# Altium integrated library Renesas Microprocessor SuperH.IntLib: 433 symbols (part 49 of 62)
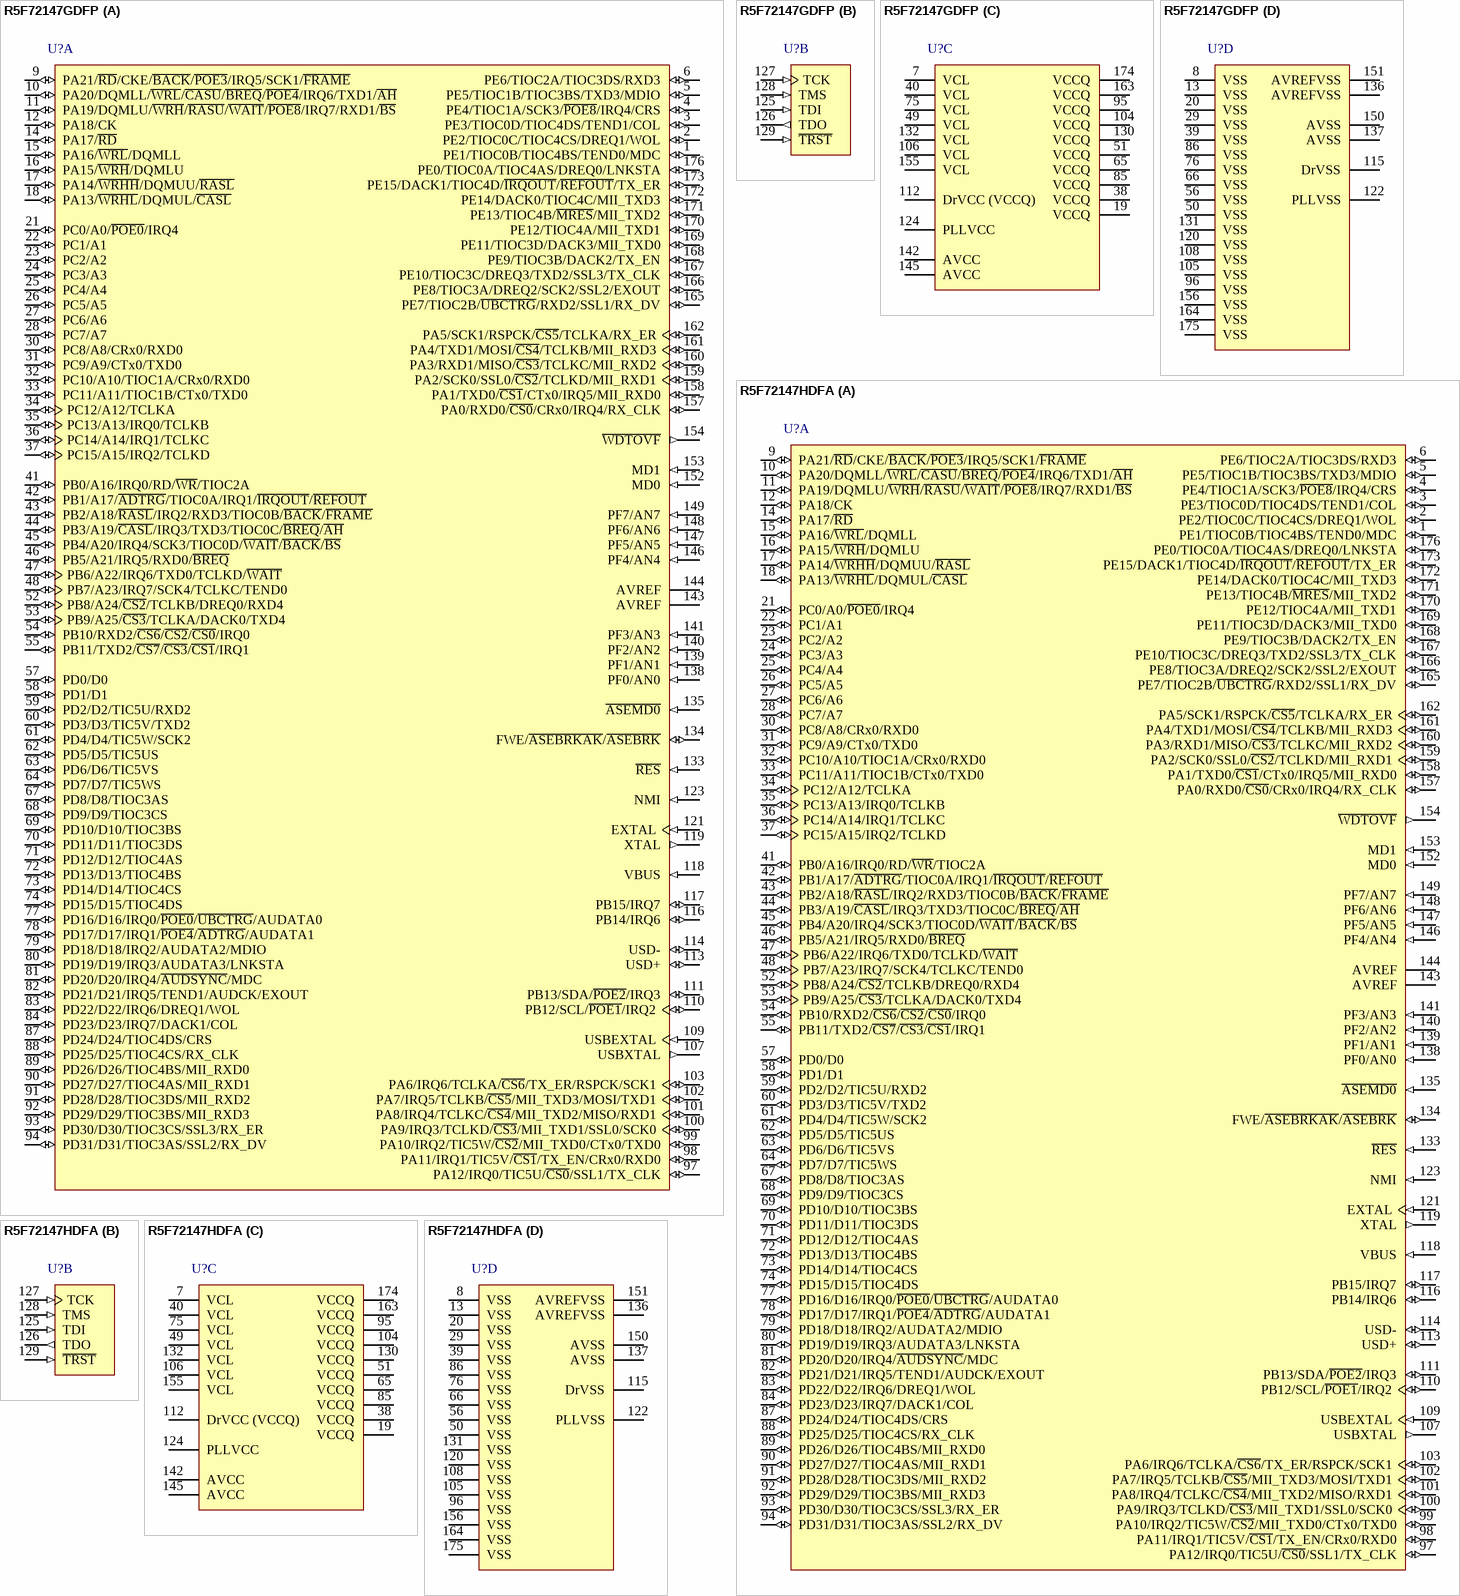
[diagram p310: symbols R5F72147GDFP to R5F72147HDFA]

## R5F72147HDFA
designator U?
32-bit RISC Microcomputer, SH7216 Series, SH2A core, 200MHz, 1M ROM, 128K RAM, 176-Pin QFP; Published: 16-Feb-2010; DatasheetVersion: Rev.1.01, May-2009; PackageVersion: Sep-2005; PackageReference: PLQP0176LB-A; Publisher: Altium Limited; PackageDescription: 176-Pin Plastic Low Profile QFP, 20 x 20 x 1.4 mm Body, 0.4 mm Pitch; Code_JEITA: P-LQFP176-20x20-0.40; ComponentLink1Description: Manufacturer Link; ComponentLink1URL: http://www.renesas.com/fmwk.jsp?cnt=sh7216_root.jsp&fp=/products/mpumcu/superh_family/sh7216_series/sh7216_group/; ComponentLink2Description: Datasheet; ComponentLink2URL: http://documentation.renesas.com/eng/products/mpumcu/rej09b0543_sh7216hm.pdf; ComponentLink3Description: Packaging Specification; ComponentLink3URL: http://sg.renesas.com/media/products/common_info/package/pdf/ic/code/plqp0176lb_a.pdf
footprint PLQP0176LB-A_N (Shrink QFP, 176-Leads, Body 20x20mm, Pitch 0.4mm, IPC Medium Density)
footprint PLQP0176LB-A_L (Shrink QFP, 176-Leads, Body 20x20mm, Pitch 0.4mm, IPC High Density)
footprint PLQP0176LB-A_M (Shrink QFP, 176-Leads, Body 20x20mm, Pitch 0.4mm, IPC Low Density)
part A pins: 1 PE1/TIOC0B/TIOC4BS/TEND0/MDC (io), 2 PE2/TIOC0C/TIOC4CS/DREQ1/WOL (io), 3 PE3/TIOC0D/TIOC4DS/TEND1/COL (io), 4 PE4/TIOC1A/SCK3/~{POE8}/IRQ4/CRS (io), 5 PE5/TIOC1B/TIOC3BS/TXD3/MDIO (io), 6 PE6/TIOC2A/TIOC3DS/RXD3 (io), 9 PA21/~{RD}/CKE/~{BACK}/~{POE3}/IRQ5/SCK1/~{FRAME} (io), 10 PA20/DQMLL/~{WRL}/~{CASU}/~{BREQ}/~{POE4}/IRQ6/TXD1/~{AH} (io), 11 PA19/DQMLU/~{WRH}/~{RASU}/~{WAIT}/~{POE8}/IRQ7/RXD1/~{BS} (io), 12 PA18/CK (io), 14 PA17/~{RD} (io), 15 PA16/~{WRL}/DQMLL (io), 16 PA15/~{WRH}/DQMLU (io), 17 PA14/~{WRHH}/DQMUU/~{RASL} (io), 18 PA13/~{WRHL}/DQMUL/~{CASL} (io), 21 PC0/A0/~{POE0}/IRQ4 (io), 22 PC1/A1 (io), 23 PC2/A2 (io), 24 PC3/A3 (io), 25 PC4/A4 (io), 26 PC5/A5 (io), 27 PC6/A6 (io), 28 PC7/A7 (io), 30 PC8/A8/CRx0/RXD0 (io), 31 PC9/A9/CTx0/TXD0 (io), 32 PC10/A10/TIOC1A/CRx0/RXD0 (io), 33 PC11/A11/TIOC1B/CTx0/TXD0 (io), 34 PC12/A12/TCLKA (io), 35 PC13/A13/IRQ0/TCLKB (io), 36 PC14/A14/IRQ1/TCLKC (io), 37 PC15/A15/IRQ2/TCLKD (io), 41 PB0/A16/IRQ0/RD/~{WR}/TIOC2A (io), 42 PB1/A17/~{ADTRG}/TIOC0A/IRQ1/~{IRQOUT}/~{REFOUT} (io), 43 PB2/A18/~{RASL}/IRQ2/RXD3/TIOC0B/~{BACK}/~{FRAME} (io), 44 PB3/A19/~{CASL}/IRQ3/TXD3/TIOC0C/~{BREQ}/~{AH} (io), 45 PB4/A20/IRQ4/SCK3/TIOC0D/~{WAIT}/~{BACK}/~{BS} (io), 46 PB5/A21/IRQ5/RXD0/~{BREQ} (io), 47 PB6/A22/IRQ6/TXD0/TCLKD/~{WAIT} (io), 48 PB7/A23/IRQ7/SCK4/TCLKC/TEND0 (io), 52 PB8/A24/~{CS2}/TCLKB/DREQ0/RXD4 (io), 53 PB9/A25/~{CS3}/TCLKA/DACK0/TXD4 (io), 54 PB10/RXD2/~{CS6}/~{CS2}/~{CS0}/IRQ0 (io), 55 PB11/TXD2/~{CS7}/~{CS3}/~{CS1}/IRQ1 (io), 57 PD0/D0 (io), 58 PD1/D1 (io), 59 PD2/D2/TIC5U/RXD2 (io), 60 PD3/D3/TIC5V/TXD2 (io), 61 PD4/D4/TIC5W/SCK2 (io), 62 PD5/D5/TIC5US (io), 63 PD6/D6/TIC5VS (io), 64 PD7/D7/TIC5WS (io), 67 PD8/D8/TIOC3AS (io), 68 PD9/D9/TIOC3CS (io), 69 PD10/D10/TIOC3BS (io), 70 PD11/D11/TIOC3DS (io), 71 PD12/D12/TIOC4AS (io), 72 PD13/D13/TIOC4BS (io), 73 PD14/D14/TIOC4CS (io), 74 PD15/D15/TIOC4DS (io), 77 PD16/D16/IRQ0/~{POE0}/~{UBCTRG}/AUDATA0 (io), 78 PD17/D17/IRQ1/~{POE4}/~{ADTRG}/AUDATA1 (io), 79 PD18/D18/IRQ2/AUDATA2/MDIO (io), 80 PD19/D19/IRQ3/AUDATA3/LNKSTA (io), 81 PD20/D20/IRQ4/~{AUDSYNC}/MDC (io), 82 PD21/D21/IRQ5/TEND1/AUDCK/EXOUT (io), 83 PD22/D22/IRQ6/DREQ1/WOL (io), 84 PD23/D23/IRQ7/DACK1/COL (io), 87 PD24/D24/TIOC4DS/CRS (io), 88 PD25/D25/TIOC4CS/RX_CLK (io), 89 PD26/D26/TIOC4BS/MII_RXD0 (io), 90 PD27/D27/TIOC4AS/MII_RXD1 (io), 91 PD28/D28/TIOC3DS/MII_RXD2 (io), 92 PD29/D29/TIOC3BS/MII_RXD3 (io), 93 PD30/D30/TIOC3CS/SSL3/RX_ER (io), 94 PD31/D31/TIOC3AS/SSL2/RX_DV (io), 97 PA12/IRQ0/TIC5U/~{CS0}/SSL1/TX_CLK (io), 98 PA11/IRQ1/TIC5V/~{CS1}/TX_EN/CRx0/RXD0 (io), 99 PA10/IRQ2/TIC5W/~{CS2}/MII_TXD0/CTx0/TXD0 (io), 100 PA9/IRQ3/TCLKD/~{CS3}/MII_TXD1/SSL0/SCK0 (io), 101 PA8/IRQ4/TCLKC/~{CS4}/MII_TXD2/MISO/RXD1 (io), 102 PA7/IRQ5/TCLKB/~{CS5}/MII_TXD3/MOSI/TXD1 (io), 103 PA6/IRQ6/TCLKA/~{CS6}/TX_ER/RSPCK/SCK1 (io), 107 USBXTAL (out), 109 USBEXTAL (in), 110 PB12/SCL/~{POE1}/IRQ2 (io), 111 PB13/SDA/~{POE2}/IRQ3 (io), 113 USD+ (io), 114 USD- (io), 116 PB14/IRQ6 (io), 117 PB15/IRQ7 (io), 118 VBUS (in), 119 XTAL (out), 121 EXTAL (in), 123 NMI (in), 133 ~{RES} (in), 134 FWE/~{ASEBRKAK}/~{ASEBRK} (io), 135 ~{ASEMD0} (in), 138 PF0/AN0 (in), 139 PF1/AN1 (in), 140 PF2/AN2 (in), 141 PF3/AN3 (in), 143 AVREF (power), 144 AVREF (power), 146 PF4/AN4 (in), 147 PF5/AN5 (in), 148 PF6/AN6 (in), 149 PF7/AN7 (in), 152 MD0 (in), 153 MD1 (in), 154 ~{WDTOVF} (out), 157 PA0/RXD0/~{CS0}/CRx0/IRQ4/RX_CLK (io), 158 PA1/TXD0/~{CS1}/CTx0/IRQ5/MII_RXD0 (io), 159 PA2/SCK0/SSL0/~{CS2}/TCLKD/MII_RXD1 (io), 160 PA3/RXD1/MISO/~{CS3}/TCLKC/MII_RXD2 (io), 161 PA4/TXD1/MOSI/~{CS4}/TCLKB/MII_RXD3 (io), 162 PA5/SCK1/RSPCK/~{CS5}/TCLKA/RX_ER (io), 165 PE7/TIOC2B/~{UBCTRG}/RXD2/SSL1/RX_DV (io), 166 PE8/TIOC3A/DREQ2/SCK2/SSL2/EXOUT (io), 167 PE10/TIOC3C/DREQ3/TXD2/SSL3/TX_CLK (io), 168 PE9/TIOC3B/DACK2/TX_EN (io), 169 PE11/TIOC3D/DACK3/MII_TXD0 (io), 170 PE12/TIOC4A/MII_TXD1 (io), 171 PE13/TIOC4B/~{MRES}/MII_TXD2 (io), 172 PE14/DACK0/TIOC4C/MII_TXD3 (io), 173 PE15/DACK1/TIOC4D/~{IRQOUT}/~{REFOUT}/TX_ER (io), 176 PE0/TIOC0A/TIOC4AS/DREQ0/LNKSTA (io)
part B pins: 125 TDI (in), 126 TDO (out), 127 TCK (in), 128 TMS (in), 129 ~{TRST} (in)
part C pins: 7 VCL (power), 19 VCCQ (power), 38 VCCQ (power), 40 VCL (power), 49 VCL (power), 51 VCCQ (power), 65 VCCQ (power), 75 VCL (power), 85 VCCQ (power), 95 VCCQ (power), 104 VCCQ (power), 106 VCL (power), 112 DrVCC (VCCQ) (power), 124 PLLVCC (power), 130 VCCQ (power), 132 VCL (power), 142 AVCC (power), 145 AVCC (power), 155 VCL (power), 163 VCCQ (power), 174 VCCQ (power)
part D pins: 8 VSS (power), 13 VSS (power), 20 VSS (power), 29 VSS (power), 39 VSS (power), 50 VSS (power), 56 VSS (power), 66 VSS (power), 76 VSS (power), 86 VSS (power), 96 VSS (power), 105 VSS (power), 108 VSS (power), 115 DrVSS (power), 120 VSS (power), 122 PLLVSS (power), 131 VSS (power), 136 AVREFVSS (power), 137 AVSS (power), 150 AVSS (power), 151 AVREFVSS (power), 156 VSS (power), 164 VSS (power), 175 VSS (power)

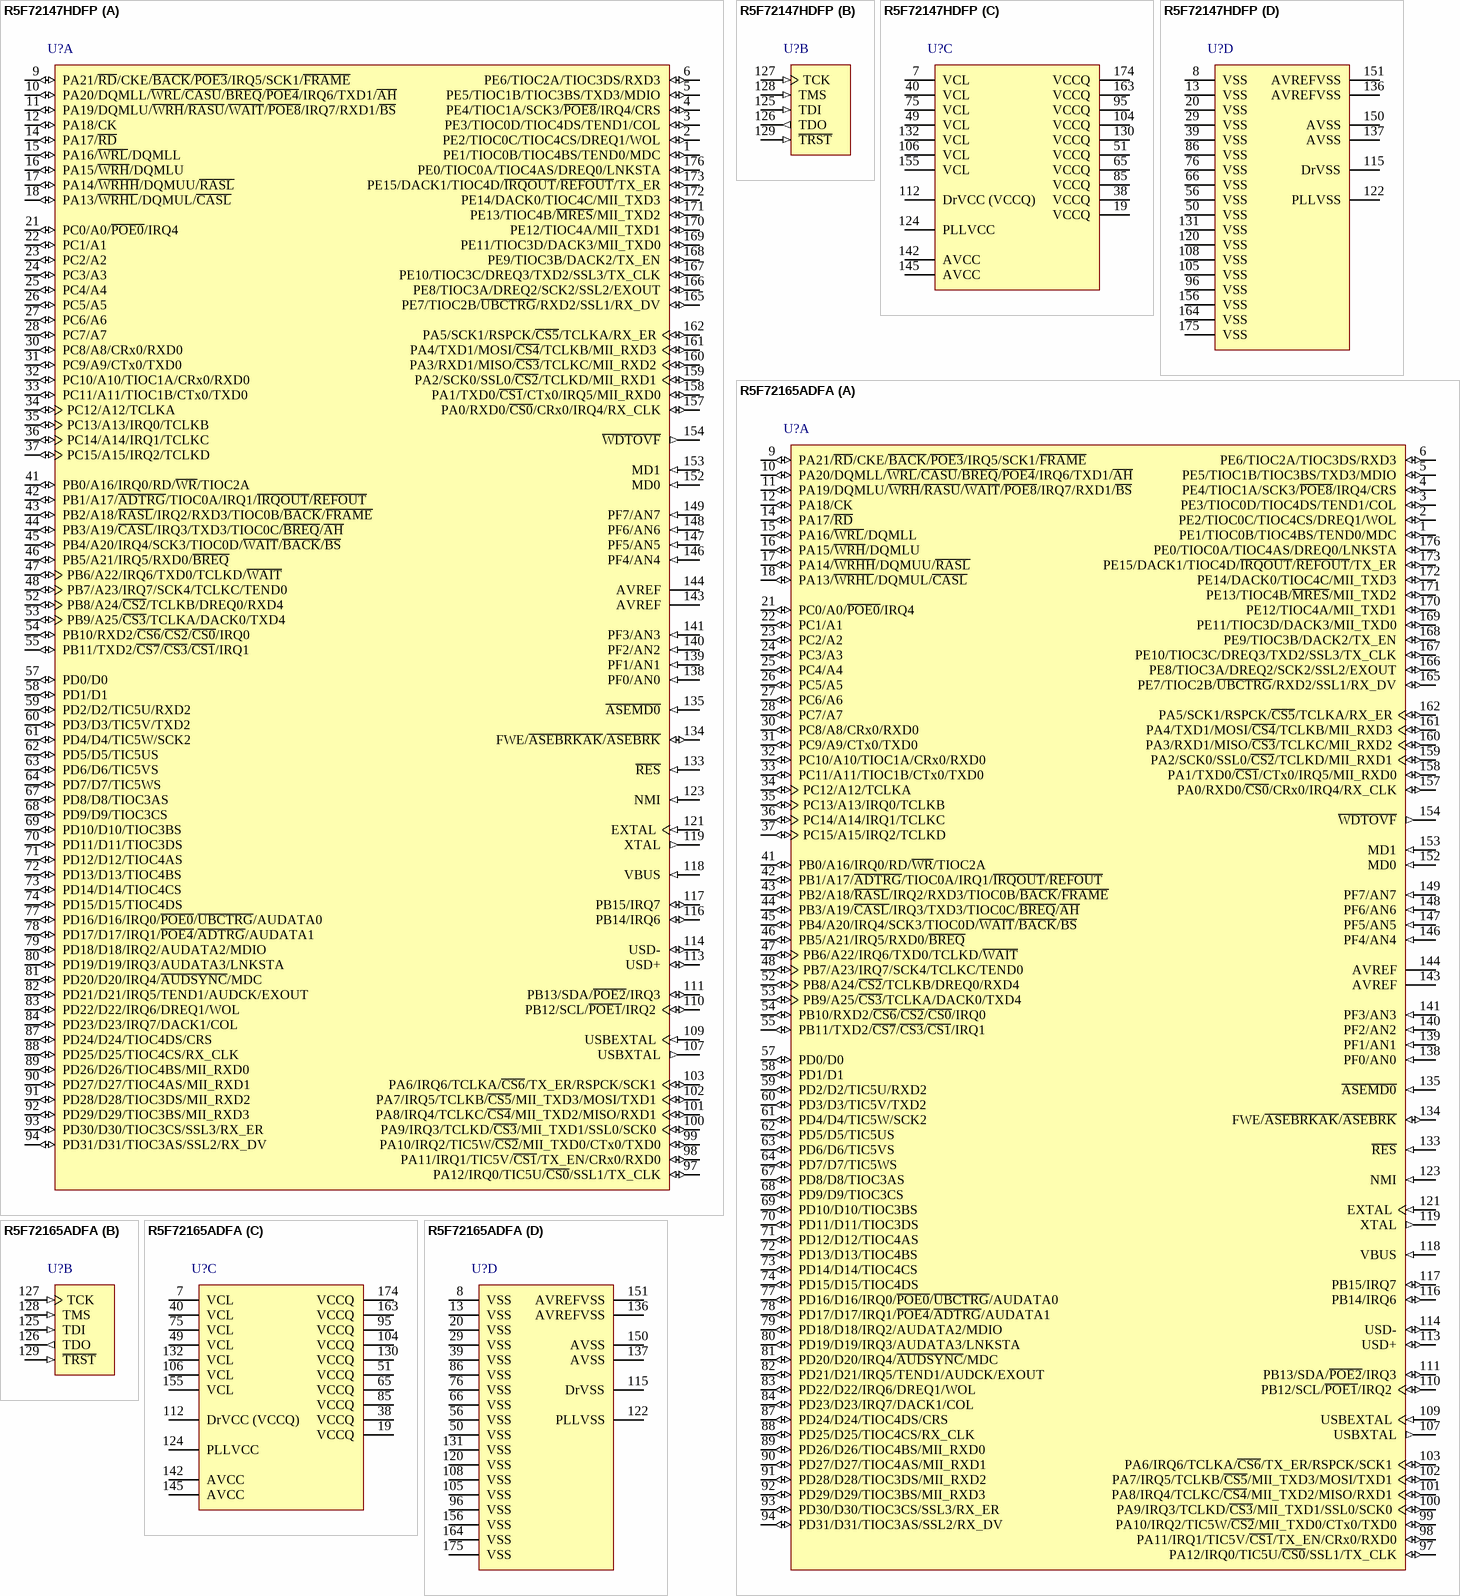
[diagram p170: symbols R5F72147HDFP to R5F72165ADFA]

## R5F72147HDFP
designator U?
32-bit RISC Microcomputer, SH7216 Series, SH2A core, 200MHz, 1M ROM, 128K RAM, 176-Pin QFP; Published: 15-Feb-2010; DatasheetVersion: Rev.1.01, May-2009; PackageVersion: Oct-2005; PackageReference: PLQP0176KB-A; Publisher: Altium Limited; PackageDescription: 176-Pin Plastic Low Profile QFP, 24 x 24 x 1.4 mm Body, 0.5 mm Pitch; Code_JEITA: P-LQFP176-24x24-0.50; ComponentLink1Description: Manufacturer Link; ComponentLink1URL: http://www.renesas.com/fmwk.jsp?cnt=sh7216_root.jsp&fp=/products/mpumcu/superh_family/sh7216_series/sh7216_group/; ComponentLink2Description: Datasheet; ComponentLink2URL: http://documentation.renesas.com/eng/products/mpumcu/rej09b0543_sh7216hm.pdf; ComponentLink3Description: Packaging Specification; ComponentLink3URL: http://sg.renesas.com/media/products/common_info/package/pdf/ic/code/plqp0176kb_a.pdf
footprint PLQP0176KB-A_N (Shrink QFP, 176-Leads, Body 24x24mm, Pitch 0.5mm, IPC Medium Density)
footprint PLQP0176KB-A_L (Shrink QFP, 176-Leads, Body 24x24mm, Pitch 0.5mm, IPC High Density)
footprint PLQP0176KB-A_M (Shrink QFP, 176-Leads, Body 24x24mm, Pitch 0.5mm, IPC Low Density)
part A pins: 1 PE1/TIOC0B/TIOC4BS/TEND0/MDC (io), 2 PE2/TIOC0C/TIOC4CS/DREQ1/WOL (io), 3 PE3/TIOC0D/TIOC4DS/TEND1/COL (io), 4 PE4/TIOC1A/SCK3/~{POE8}/IRQ4/CRS (io), 5 PE5/TIOC1B/TIOC3BS/TXD3/MDIO (io), 6 PE6/TIOC2A/TIOC3DS/RXD3 (io), 9 PA21/~{RD}/CKE/~{BACK}/~{POE3}/IRQ5/SCK1/~{FRAME} (io), 10 PA20/DQMLL/~{WRL}/~{CASU}/~{BREQ}/~{POE4}/IRQ6/TXD1/~{AH} (io), 11 PA19/DQMLU/~{WRH}/~{RASU}/~{WAIT}/~{POE8}/IRQ7/RXD1/~{BS} (io), 12 PA18/CK (io), 14 PA17/~{RD} (io), 15 PA16/~{WRL}/DQMLL (io), 16 PA15/~{WRH}/DQMLU (io), 17 PA14/~{WRHH}/DQMUU/~{RASL} (io), 18 PA13/~{WRHL}/DQMUL/~{CASL} (io), 21 PC0/A0/~{POE0}/IRQ4 (io), 22 PC1/A1 (io), 23 PC2/A2 (io), 24 PC3/A3 (io), 25 PC4/A4 (io), 26 PC5/A5 (io), 27 PC6/A6 (io), 28 PC7/A7 (io), 30 PC8/A8/CRx0/RXD0 (io), 31 PC9/A9/CTx0/TXD0 (io), 32 PC10/A10/TIOC1A/CRx0/RXD0 (io), 33 PC11/A11/TIOC1B/CTx0/TXD0 (io), 34 PC12/A12/TCLKA (io), 35 PC13/A13/IRQ0/TCLKB (io), 36 PC14/A14/IRQ1/TCLKC (io), 37 PC15/A15/IRQ2/TCLKD (io), 41 PB0/A16/IRQ0/RD/~{WR}/TIOC2A (io), 42 PB1/A17/~{ADTRG}/TIOC0A/IRQ1/~{IRQOUT}/~{REFOUT} (io), 43 PB2/A18/~{RASL}/IRQ2/RXD3/TIOC0B/~{BACK}/~{FRAME} (io), 44 PB3/A19/~{CASL}/IRQ3/TXD3/TIOC0C/~{BREQ}/~{AH} (io), 45 PB4/A20/IRQ4/SCK3/TIOC0D/~{WAIT}/~{BACK}/~{BS} (io), 46 PB5/A21/IRQ5/RXD0/~{BREQ} (io), 47 PB6/A22/IRQ6/TXD0/TCLKD/~{WAIT} (io), 48 PB7/A23/IRQ7/SCK4/TCLKC/TEND0 (io), 52 PB8/A24/~{CS2}/TCLKB/DREQ0/RXD4 (io), 53 PB9/A25/~{CS3}/TCLKA/DACK0/TXD4 (io), 54 PB10/RXD2/~{CS6}/~{CS2}/~{CS0}/IRQ0 (io), 55 PB11/TXD2/~{CS7}/~{CS3}/~{CS1}/IRQ1 (io), 57 PD0/D0 (io), 58 PD1/D1 (io), 59 PD2/D2/TIC5U/RXD2 (io), 60 PD3/D3/TIC5V/TXD2 (io), 61 PD4/D4/TIC5W/SCK2 (io), 62 PD5/D5/TIC5US (io), 63 PD6/D6/TIC5VS (io), 64 PD7/D7/TIC5WS (io), 67 PD8/D8/TIOC3AS (io), 68 PD9/D9/TIOC3CS (io), 69 PD10/D10/TIOC3BS (io), 70 PD11/D11/TIOC3DS (io), 71 PD12/D12/TIOC4AS (io), 72 PD13/D13/TIOC4BS (io), 73 PD14/D14/TIOC4CS (io), 74 PD15/D15/TIOC4DS (io), 77 PD16/D16/IRQ0/~{POE0}/~{UBCTRG}/AUDATA0 (io), 78 PD17/D17/IRQ1/~{POE4}/~{ADTRG}/AUDATA1 (io), 79 PD18/D18/IRQ2/AUDATA2/MDIO (io), 80 PD19/D19/IRQ3/AUDATA3/LNKSTA (io), 81 PD20/D20/IRQ4/~{AUDSYNC}/MDC (io), 82 PD21/D21/IRQ5/TEND1/AUDCK/EXOUT (io), 83 PD22/D22/IRQ6/DREQ1/WOL (io), 84 PD23/D23/IRQ7/DACK1/COL (io), 87 PD24/D24/TIOC4DS/CRS (io), 88 PD25/D25/TIOC4CS/RX_CLK (io), 89 PD26/D26/TIOC4BS/MII_RXD0 (io), 90 PD27/D27/TIOC4AS/MII_RXD1 (io), 91 PD28/D28/TIOC3DS/MII_RXD2 (io), 92 PD29/D29/TIOC3BS/MII_RXD3 (io), 93 PD30/D30/TIOC3CS/SSL3/RX_ER (io), 94 PD31/D31/TIOC3AS/SSL2/RX_DV (io), 97 PA12/IRQ0/TIC5U/~{CS0}/SSL1/TX_CLK (io), 98 PA11/IRQ1/TIC5V/~{CS1}/TX_EN/CRx0/RXD0 (io), 99 PA10/IRQ2/TIC5W/~{CS2}/MII_TXD0/CTx0/TXD0 (io), 100 PA9/IRQ3/TCLKD/~{CS3}/MII_TXD1/SSL0/SCK0 (io), 101 PA8/IRQ4/TCLKC/~{CS4}/MII_TXD2/MISO/RXD1 (io), 102 PA7/IRQ5/TCLKB/~{CS5}/MII_TXD3/MOSI/TXD1 (io), 103 PA6/IRQ6/TCLKA/~{CS6}/TX_ER/RSPCK/SCK1 (io), 107 USBXTAL (out), 109 USBEXTAL (in), 110 PB12/SCL/~{POE1}/IRQ2 (io), 111 PB13/SDA/~{POE2}/IRQ3 (io), 113 USD+ (io), 114 USD- (io), 116 PB14/IRQ6 (io), 117 PB15/IRQ7 (io), 118 VBUS (in), 119 XTAL (out), 121 EXTAL (in), 123 NMI (in), 133 ~{RES} (in), 134 FWE/~{ASEBRKAK}/~{ASEBRK} (io), 135 ~{ASEMD0} (in), 138 PF0/AN0 (in), 139 PF1/AN1 (in), 140 PF2/AN2 (in), 141 PF3/AN3 (in), 143 AVREF (power), 144 AVREF (power), 146 PF4/AN4 (in), 147 PF5/AN5 (in), 148 PF6/AN6 (in), 149 PF7/AN7 (in), 152 MD0 (in), 153 MD1 (in), 154 ~{WDTOVF} (out), 157 PA0/RXD0/~{CS0}/CRx0/IRQ4/RX_CLK (io), 158 PA1/TXD0/~{CS1}/CTx0/IRQ5/MII_RXD0 (io), 159 PA2/SCK0/SSL0/~{CS2}/TCLKD/MII_RXD1 (io), 160 PA3/RXD1/MISO/~{CS3}/TCLKC/MII_RXD2 (io), 161 PA4/TXD1/MOSI/~{CS4}/TCLKB/MII_RXD3 (io), 162 PA5/SCK1/RSPCK/~{CS5}/TCLKA/RX_ER (io), 165 PE7/TIOC2B/~{UBCTRG}/RXD2/SSL1/RX_DV (io), 166 PE8/TIOC3A/DREQ2/SCK2/SSL2/EXOUT (io), 167 PE10/TIOC3C/DREQ3/TXD2/SSL3/TX_CLK (io), 168 PE9/TIOC3B/DACK2/TX_EN (io), 169 PE11/TIOC3D/DACK3/MII_TXD0 (io), 170 PE12/TIOC4A/MII_TXD1 (io), 171 PE13/TIOC4B/~{MRES}/MII_TXD2 (io), 172 PE14/DACK0/TIOC4C/MII_TXD3 (io), 173 PE15/DACK1/TIOC4D/~{IRQOUT}/~{REFOUT}/TX_ER (io), 176 PE0/TIOC0A/TIOC4AS/DREQ0/LNKSTA (io)
part B pins: 125 TDI (in), 126 TDO (out), 127 TCK (in), 128 TMS (in), 129 ~{TRST} (in)
part C pins: 7 VCL (power), 19 VCCQ (power), 38 VCCQ (power), 40 VCL (power), 49 VCL (power), 51 VCCQ (power), 65 VCCQ (power), 75 VCL (power), 85 VCCQ (power), 95 VCCQ (power), 104 VCCQ (power), 106 VCL (power), 112 DrVCC (VCCQ) (power), 124 PLLVCC (power), 130 VCCQ (power), 132 VCL (power), 142 AVCC (power), 145 AVCC (power), 155 VCL (power), 163 VCCQ (power), 174 VCCQ (power)
part D pins: 8 VSS (power), 13 VSS (power), 20 VSS (power), 29 VSS (power), 39 VSS (power), 50 VSS (power), 56 VSS (power), 66 VSS (power), 76 VSS (power), 86 VSS (power), 96 VSS (power), 105 VSS (power), 108 VSS (power), 115 DrVSS (power), 120 VSS (power), 122 PLLVSS (power), 131 VSS (power), 136 AVREFVSS (power), 137 AVSS (power), 150 AVSS (power), 151 AVREFVSS (power), 156 VSS (power), 164 VSS (power), 175 VSS (power)

## R5F72165ADFA
designator U?
32-Bit RISC Microcomputer, SH7216 Series, SH2A-FPU core, 200MHz, 512K ROM, 64K RAM, 20x20mm 176-pin PLQFP, -40 to 85°C; Published: 28-Aug-2009; DatasheetVersion: Rev.1.01, May-2009; PackageVersion: Sep-2005; PackageReference: PLQP0176LB-A; Publisher: Altium Limited; PackageDescription: 176-Pin Plastic Low Profile QFP, 20 x 20 x 1.4 mm Body, 0.4 mm Pitch; Code_JEITA: P-LQFP176-20x20-0.40; ComponentLink1Description: Manufacturer Link; ComponentLink1URL: http://www.renesas.com/fmwk.jsp?cnt=sh7216_root.jsp&fp=/products/mpumcu/superh_family/sh7216_series/sh7216_group/; ComponentLink2Description: Datasheet; ComponentLink2URL: http://documentation.renesas.com/eng/products/mpumcu/rej09b0543_sh7216hm.pdf; ComponentLink3Description: Packaging Specification; ComponentLink3URL: http://sg.renesas.com/media/products/common_info/package/pdf/ic/code/plqp0176lb_a.pdf
footprint PLQP0176LB-A_N (Shrink QFP, 176-Leads, Body 20x20mm, Pitch 0.4mm, IPC Medium Density)
footprint PLQP0176LB-A_L (Shrink QFP, 176-Leads, Body 20x20mm, Pitch 0.4mm, IPC High Density)
footprint PLQP0176LB-A_M (Shrink QFP, 176-Leads, Body 20x20mm, Pitch 0.4mm, IPC Low Density)
part A pins: 1 PE1/TIOC0B/TIOC4BS/TEND0/MDC (io), 2 PE2/TIOC0C/TIOC4CS/DREQ1/WOL (io), 3 PE3/TIOC0D/TIOC4DS/TEND1/COL (io), 4 PE4/TIOC1A/SCK3/~{POE8}/IRQ4/CRS (io), 5 PE5/TIOC1B/TIOC3BS/TXD3/MDIO (io), 6 PE6/TIOC2A/TIOC3DS/RXD3 (io), 9 PA21/~{RD}/CKE/~{BACK}/~{POE3}/IRQ5/SCK1/~{FRAME} (io), 10 PA20/DQMLL/~{WRL}/~{CASU}/~{BREQ}/~{POE4}/IRQ6/TXD1/~{AH} (io), 11 PA19/DQMLU/~{WRH}/~{RASU}/~{WAIT}/~{POE8}/IRQ7/RXD1/~{BS} (io), 12 PA18/CK (io), 14 PA17/~{RD} (io), 15 PA16/~{WRL}/DQMLL (io), 16 PA15/~{WRH}/DQMLU (io), 17 PA14/~{WRHH}/DQMUU/~{RASL} (io), 18 PA13/~{WRHL}/DQMUL/~{CASL} (io), 21 PC0/A0/~{POE0}/IRQ4 (io), 22 PC1/A1 (io), 23 PC2/A2 (io), 24 PC3/A3 (io), 25 PC4/A4 (io), 26 PC5/A5 (io), 27 PC6/A6 (io), 28 PC7/A7 (io), 30 PC8/A8/CRx0/RXD0 (io), 31 PC9/A9/CTx0/TXD0 (io), 32 PC10/A10/TIOC1A/CRx0/RXD0 (io), 33 PC11/A11/TIOC1B/CTx0/TXD0 (io), 34 PC12/A12/TCLKA (io), 35 PC13/A13/IRQ0/TCLKB (io), 36 PC14/A14/IRQ1/TCLKC (io), 37 PC15/A15/IRQ2/TCLKD (io), 41 PB0/A16/IRQ0/RD/~{WR}/TIOC2A (io), 42 PB1/A17/~{ADTRG}/TIOC0A/IRQ1/~{IRQOUT}/~{REFOUT} (io), 43 PB2/A18/~{RASL}/IRQ2/RXD3/TIOC0B/~{BACK}/~{FRAME} (io), 44 PB3/A19/~{CASL}/IRQ3/TXD3/TIOC0C/~{BREQ}/~{AH} (io), 45 PB4/A20/IRQ4/SCK3/TIOC0D/~{WAIT}/~{BACK}/~{BS} (io), 46 PB5/A21/IRQ5/RXD0/~{BREQ} (io), 47 PB6/A22/IRQ6/TXD0/TCLKD/~{WAIT} (io), 48 PB7/A23/IRQ7/SCK4/TCLKC/TEND0 (io), 52 PB8/A24/~{CS2}/TCLKB/DREQ0/RXD4 (io), 53 PB9/A25/~{CS3}/TCLKA/DACK0/TXD4 (io), 54 PB10/RXD2/~{CS6}/~{CS2}/~{CS0}/IRQ0 (io), 55 PB11/TXD2/~{CS7}/~{CS3}/~{CS1}/IRQ1 (io), 57 PD0/D0 (io), 58 PD1/D1 (io), 59 PD2/D2/TIC5U/RXD2 (io), 60 PD3/D3/TIC5V/TXD2 (io), 61 PD4/D4/TIC5W/SCK2 (io), 62 PD5/D5/TIC5US (io), 63 PD6/D6/TIC5VS (io), 64 PD7/D7/TIC5WS (io), 67 PD8/D8/TIOC3AS (io), 68 PD9/D9/TIOC3CS (io), 69 PD10/D10/TIOC3BS (io), 70 PD11/D11/TIOC3DS (io), 71 PD12/D12/TIOC4AS (io), 72 PD13/D13/TIOC4BS (io), 73 PD14/D14/TIOC4CS (io), 74 PD15/D15/TIOC4DS (io), 77 PD16/D16/IRQ0/~{POE0}/~{UBCTRG}/AUDATA0 (io), 78 PD17/D17/IRQ1/~{POE4}/~{ADTRG}/AUDATA1 (io), 79 PD18/D18/IRQ2/AUDATA2/MDIO (io), 80 PD19/D19/IRQ3/AUDATA3/LNKSTA (io), 81 PD20/D20/IRQ4/~{AUDSYNC}/MDC (io), 82 PD21/D21/IRQ5/TEND1/AUDCK/EXOUT (io), 83 PD22/D22/IRQ6/DREQ1/WOL (io), 84 PD23/D23/IRQ7/DACK1/COL (io), 87 PD24/D24/TIOC4DS/CRS (io), 88 PD25/D25/TIOC4CS/RX_CLK (io), 89 PD26/D26/TIOC4BS/MII_RXD0 (io), 90 PD27/D27/TIOC4AS/MII_RXD1 (io), 91 PD28/D28/TIOC3DS/MII_RXD2 (io), 92 PD29/D29/TIOC3BS/MII_RXD3 (io), 93 PD30/D30/TIOC3CS/SSL3/RX_ER (io), 94 PD31/D31/TIOC3AS/SSL2/RX_DV (io), 97 PA12/IRQ0/TIC5U/~{CS0}/SSL1/TX_CLK (io), 98 PA11/IRQ1/TIC5V/~{CS1}/TX_EN/CRx0/RXD0 (io), 99 PA10/IRQ2/TIC5W/~{CS2}/MII_TXD0/CTx0/TXD0 (io), 100 PA9/IRQ3/TCLKD/~{CS3}/MII_TXD1/SSL0/SCK0 (io), 101 PA8/IRQ4/TCLKC/~{CS4}/MII_TXD2/MISO/RXD1 (io), 102 PA7/IRQ5/TCLKB/~{CS5}/MII_TXD3/MOSI/TXD1 (io), 103 PA6/IRQ6/TCLKA/~{CS6}/TX_ER/RSPCK/SCK1 (io), 107 USBXTAL (out), 109 USBEXTAL (in), 110 PB12/SCL/~{POE1}/IRQ2 (io), 111 PB13/SDA/~{POE2}/IRQ3 (io), 113 USD+ (io), 114 USD- (io), 116 PB14/IRQ6 (io), 117 PB15/IRQ7 (io), 118 VBUS (in), 119 XTAL (out), 121 EXTAL (in), 123 NMI (in), 133 ~{RES} (in), 134 FWE/~{ASEBRKAK}/~{ASEBRK} (io), 135 ~{ASEMD0} (in), 138 PF0/AN0 (in), 139 PF1/AN1 (in), 140 PF2/AN2 (in), 141 PF3/AN3 (in), 143 AVREF (power), 144 AVREF (power), 146 PF4/AN4 (in), 147 PF5/AN5 (in), 148 PF6/AN6 (in), 149 PF7/AN7 (in), 152 MD0 (in), 153 MD1 (in), 154 ~{WDTOVF} (out), 157 PA0/RXD0/~{CS0}/CRx0/IRQ4/RX_CLK (io), 158 PA1/TXD0/~{CS1}/CTx0/IRQ5/MII_RXD0 (io), 159 PA2/SCK0/SSL0/~{CS2}/TCLKD/MII_RXD1 (io), 160 PA3/RXD1/MISO/~{CS3}/TCLKC/MII_RXD2 (io), 161 PA4/TXD1/MOSI/~{CS4}/TCLKB/MII_RXD3 (io), 162 PA5/SCK1/RSPCK/~{CS5}/TCLKA/RX_ER (io), 165 PE7/TIOC2B/~{UBCTRG}/RXD2/SSL1/RX_DV (io), 166 PE8/TIOC3A/DREQ2/SCK2/SSL2/EXOUT (io), 167 PE10/TIOC3C/DREQ3/TXD2/SSL3/TX_CLK (io), 168 PE9/TIOC3B/DACK2/TX_EN (io), 169 PE11/TIOC3D/DACK3/MII_TXD0 (io), 170 PE12/TIOC4A/MII_TXD1 (io), 171 PE13/TIOC4B/~{MRES}/MII_TXD2 (io), 172 PE14/DACK0/TIOC4C/MII_TXD3 (io), 173 PE15/DACK1/TIOC4D/~{IRQOUT}/~{REFOUT}/TX_ER (io), 176 PE0/TIOC0A/TIOC4AS/DREQ0/LNKSTA (io)
part B pins: 125 TDI (in), 126 TDO (out), 127 TCK (in), 128 TMS (in), 129 ~{TRST} (in)
part C pins: 7 VCL (power), 19 VCCQ (power), 38 VCCQ (power), 40 VCL (power), 49 VCL (power), 51 VCCQ (power), 65 VCCQ (power), 75 VCL (power), 85 VCCQ (power), 95 VCCQ (power), 104 VCCQ (power), 106 VCL (power), 112 DrVCC (VCCQ) (power), 124 PLLVCC (power), 130 VCCQ (power), 132 VCL (power), 142 AVCC (power), 145 AVCC (power), 155 VCL (power), 163 VCCQ (power), 174 VCCQ (power)
part D pins: 8 VSS (power), 13 VSS (power), 20 VSS (power), 29 VSS (power), 39 VSS (power), 50 VSS (power), 56 VSS (power), 66 VSS (power), 76 VSS (power), 86 VSS (power), 96 VSS (power), 105 VSS (power), 108 VSS (power), 115 DrVSS (power), 120 VSS (power), 122 PLLVSS (power), 131 VSS (power), 136 AVREFVSS (power), 137 AVSS (power), 150 AVSS (power), 151 AVREFVSS (power), 156 VSS (power), 164 VSS (power), 175 VSS (power)

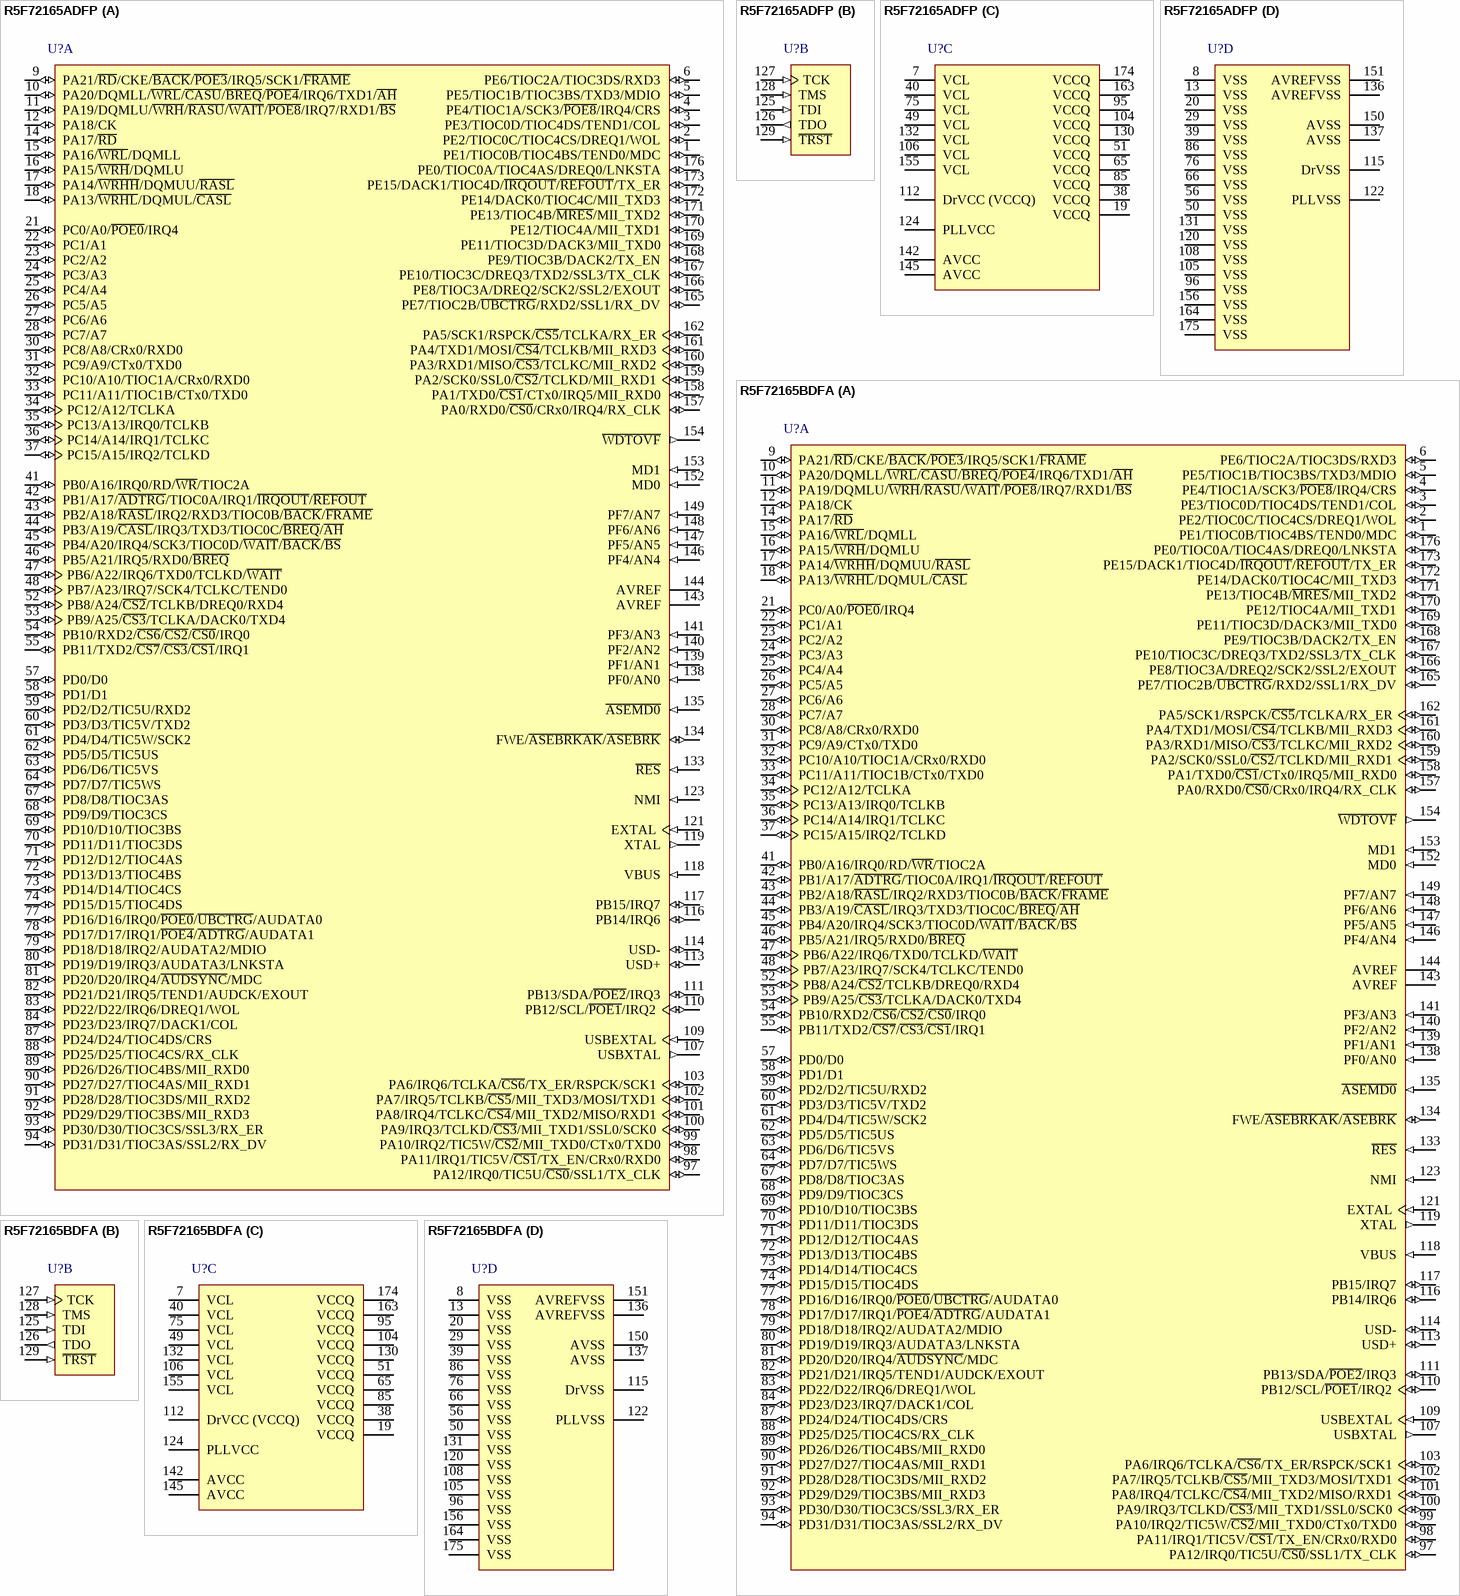
[diagram p171: symbols R5F72165ADFP to R5F72165BDFA]

## R5F72165ADFP
designator U?
32-Bit RISC Microcomputer, SH7216 Series, SH2A-FPU core, 200MHz, 512K ROM, 64K RAM, 24x24mm 176-pin QFP, -40 to 85°C; Published: 28-Aug-2009; DatasheetVersion: Rev.1.01, May-2009; PackageVersion: Oct-2005; PackageReference: PLQP0176KB-A; Publisher: Altium Limited; PackageDescription: 176-Pin Plastic Low Profile QFP, 24 x 24 x 1.4 mm Body, 0.5 mm Pitch; Code_JEITA: P-LQFP176-24x24-0.50; ComponentLink1Description: Manufacturer Link; ComponentLink1URL: http://www.renesas.com/fmwk.jsp?cnt=sh7216_root.jsp&fp=/products/mpumcu/superh_family/sh7216_series/sh7216_group/; ComponentLink2Description: Datasheet; ComponentLink2URL: http://documentation.renesas.com/eng/products/mpumcu/rej09b0543_sh7216hm.pdf; ComponentLink3Description: Packaging Specification; ComponentLink3URL: http://sg.renesas.com/media/products/common_info/package/pdf/ic/code/plqp0176kb_a.pdf
footprint PLQP0176KB-A_N (Shrink QFP, 176-Leads, Body 24x24mm, Pitch 0.5mm, IPC Medium Density)
footprint PLQP0176KB-A_L (Shrink QFP, 176-Leads, Body 24x24mm, Pitch 0.5mm, IPC High Density)
footprint PLQP0176KB-A_M (Shrink QFP, 176-Leads, Body 24x24mm, Pitch 0.5mm, IPC Low Density)
part A pins: 1 PE1/TIOC0B/TIOC4BS/TEND0/MDC (io), 2 PE2/TIOC0C/TIOC4CS/DREQ1/WOL (io), 3 PE3/TIOC0D/TIOC4DS/TEND1/COL (io), 4 PE4/TIOC1A/SCK3/~{POE8}/IRQ4/CRS (io), 5 PE5/TIOC1B/TIOC3BS/TXD3/MDIO (io), 6 PE6/TIOC2A/TIOC3DS/RXD3 (io), 9 PA21/~{RD}/CKE/~{BACK}/~{POE3}/IRQ5/SCK1/~{FRAME} (io), 10 PA20/DQMLL/~{WRL}/~{CASU}/~{BREQ}/~{POE4}/IRQ6/TXD1/~{AH} (io), 11 PA19/DQMLU/~{WRH}/~{RASU}/~{WAIT}/~{POE8}/IRQ7/RXD1/~{BS} (io), 12 PA18/CK (io), 14 PA17/~{RD} (io), 15 PA16/~{WRL}/DQMLL (io), 16 PA15/~{WRH}/DQMLU (io), 17 PA14/~{WRHH}/DQMUU/~{RASL} (io), 18 PA13/~{WRHL}/DQMUL/~{CASL} (io), 21 PC0/A0/~{POE0}/IRQ4 (io), 22 PC1/A1 (io), 23 PC2/A2 (io), 24 PC3/A3 (io), 25 PC4/A4 (io), 26 PC5/A5 (io), 27 PC6/A6 (io), 28 PC7/A7 (io), 30 PC8/A8/CRx0/RXD0 (io), 31 PC9/A9/CTx0/TXD0 (io), 32 PC10/A10/TIOC1A/CRx0/RXD0 (io), 33 PC11/A11/TIOC1B/CTx0/TXD0 (io), 34 PC12/A12/TCLKA (io), 35 PC13/A13/IRQ0/TCLKB (io), 36 PC14/A14/IRQ1/TCLKC (io), 37 PC15/A15/IRQ2/TCLKD (io), 41 PB0/A16/IRQ0/RD/~{WR}/TIOC2A (io), 42 PB1/A17/~{ADTRG}/TIOC0A/IRQ1/~{IRQOUT}/~{REFOUT} (io), 43 PB2/A18/~{RASL}/IRQ2/RXD3/TIOC0B/~{BACK}/~{FRAME} (io), 44 PB3/A19/~{CASL}/IRQ3/TXD3/TIOC0C/~{BREQ}/~{AH} (io), 45 PB4/A20/IRQ4/SCK3/TIOC0D/~{WAIT}/~{BACK}/~{BS} (io), 46 PB5/A21/IRQ5/RXD0/~{BREQ} (io), 47 PB6/A22/IRQ6/TXD0/TCLKD/~{WAIT} (io), 48 PB7/A23/IRQ7/SCK4/TCLKC/TEND0 (io), 52 PB8/A24/~{CS2}/TCLKB/DREQ0/RXD4 (io), 53 PB9/A25/~{CS3}/TCLKA/DACK0/TXD4 (io), 54 PB10/RXD2/~{CS6}/~{CS2}/~{CS0}/IRQ0 (io), 55 PB11/TXD2/~{CS7}/~{CS3}/~{CS1}/IRQ1 (io), 57 PD0/D0 (io), 58 PD1/D1 (io), 59 PD2/D2/TIC5U/RXD2 (io), 60 PD3/D3/TIC5V/TXD2 (io), 61 PD4/D4/TIC5W/SCK2 (io), 62 PD5/D5/TIC5US (io), 63 PD6/D6/TIC5VS (io), 64 PD7/D7/TIC5WS (io), 67 PD8/D8/TIOC3AS (io), 68 PD9/D9/TIOC3CS (io), 69 PD10/D10/TIOC3BS (io), 70 PD11/D11/TIOC3DS (io), 71 PD12/D12/TIOC4AS (io), 72 PD13/D13/TIOC4BS (io), 73 PD14/D14/TIOC4CS (io), 74 PD15/D15/TIOC4DS (io), 77 PD16/D16/IRQ0/~{POE0}/~{UBCTRG}/AUDATA0 (io), 78 PD17/D17/IRQ1/~{POE4}/~{ADTRG}/AUDATA1 (io), 79 PD18/D18/IRQ2/AUDATA2/MDIO (io), 80 PD19/D19/IRQ3/AUDATA3/LNKSTA (io), 81 PD20/D20/IRQ4/~{AUDSYNC}/MDC (io), 82 PD21/D21/IRQ5/TEND1/AUDCK/EXOUT (io), 83 PD22/D22/IRQ6/DREQ1/WOL (io), 84 PD23/D23/IRQ7/DACK1/COL (io), 87 PD24/D24/TIOC4DS/CRS (io), 88 PD25/D25/TIOC4CS/RX_CLK (io), 89 PD26/D26/TIOC4BS/MII_RXD0 (io), 90 PD27/D27/TIOC4AS/MII_RXD1 (io), 91 PD28/D28/TIOC3DS/MII_RXD2 (io), 92 PD29/D29/TIOC3BS/MII_RXD3 (io), 93 PD30/D30/TIOC3CS/SSL3/RX_ER (io), 94 PD31/D31/TIOC3AS/SSL2/RX_DV (io), 97 PA12/IRQ0/TIC5U/~{CS0}/SSL1/TX_CLK (io), 98 PA11/IRQ1/TIC5V/~{CS1}/TX_EN/CRx0/RXD0 (io), 99 PA10/IRQ2/TIC5W/~{CS2}/MII_TXD0/CTx0/TXD0 (io), 100 PA9/IRQ3/TCLKD/~{CS3}/MII_TXD1/SSL0/SCK0 (io), 101 PA8/IRQ4/TCLKC/~{CS4}/MII_TXD2/MISO/RXD1 (io), 102 PA7/IRQ5/TCLKB/~{CS5}/MII_TXD3/MOSI/TXD1 (io), 103 PA6/IRQ6/TCLKA/~{CS6}/TX_ER/RSPCK/SCK1 (io), 107 USBXTAL (out), 109 USBEXTAL (in), 110 PB12/SCL/~{POE1}/IRQ2 (io), 111 PB13/SDA/~{POE2}/IRQ3 (io), 113 USD+ (io), 114 USD- (io), 116 PB14/IRQ6 (io), 117 PB15/IRQ7 (io), 118 VBUS (in), 119 XTAL (out), 121 EXTAL (in), 123 NMI (in), 133 ~{RES} (in), 134 FWE/~{ASEBRKAK}/~{ASEBRK} (io), 135 ~{ASEMD0} (in), 138 PF0/AN0 (in), 139 PF1/AN1 (in), 140 PF2/AN2 (in), 141 PF3/AN3 (in), 143 AVREF (power), 144 AVREF (power), 146 PF4/AN4 (in), 147 PF5/AN5 (in), 148 PF6/AN6 (in), 149 PF7/AN7 (in), 152 MD0 (in), 153 MD1 (in), 154 ~{WDTOVF} (out), 157 PA0/RXD0/~{CS0}/CRx0/IRQ4/RX_CLK (io), 158 PA1/TXD0/~{CS1}/CTx0/IRQ5/MII_RXD0 (io), 159 PA2/SCK0/SSL0/~{CS2}/TCLKD/MII_RXD1 (io), 160 PA3/RXD1/MISO/~{CS3}/TCLKC/MII_RXD2 (io), 161 PA4/TXD1/MOSI/~{CS4}/TCLKB/MII_RXD3 (io), 162 PA5/SCK1/RSPCK/~{CS5}/TCLKA/RX_ER (io), 165 PE7/TIOC2B/~{UBCTRG}/RXD2/SSL1/RX_DV (io), 166 PE8/TIOC3A/DREQ2/SCK2/SSL2/EXOUT (io), 167 PE10/TIOC3C/DREQ3/TXD2/SSL3/TX_CLK (io), 168 PE9/TIOC3B/DACK2/TX_EN (io), 169 PE11/TIOC3D/DACK3/MII_TXD0 (io), 170 PE12/TIOC4A/MII_TXD1 (io), 171 PE13/TIOC4B/~{MRES}/MII_TXD2 (io), 172 PE14/DACK0/TIOC4C/MII_TXD3 (io), 173 PE15/DACK1/TIOC4D/~{IRQOUT}/~{REFOUT}/TX_ER (io), 176 PE0/TIOC0A/TIOC4AS/DREQ0/LNKSTA (io)
part B pins: 125 TDI (in), 126 TDO (out), 127 TCK (in), 128 TMS (in), 129 ~{TRST} (in)
part C pins: 7 VCL (power), 19 VCCQ (power), 38 VCCQ (power), 40 VCL (power), 49 VCL (power), 51 VCCQ (power), 65 VCCQ (power), 75 VCL (power), 85 VCCQ (power), 95 VCCQ (power), 104 VCCQ (power), 106 VCL (power), 112 DrVCC (VCCQ) (power), 124 PLLVCC (power), 130 VCCQ (power), 132 VCL (power), 142 AVCC (power), 145 AVCC (power), 155 VCL (power), 163 VCCQ (power), 174 VCCQ (power)
part D pins: 8 VSS (power), 13 VSS (power), 20 VSS (power), 29 VSS (power), 39 VSS (power), 50 VSS (power), 56 VSS (power), 66 VSS (power), 76 VSS (power), 86 VSS (power), 96 VSS (power), 105 VSS (power), 108 VSS (power), 115 DrVSS (power), 120 VSS (power), 122 PLLVSS (power), 131 VSS (power), 136 AVREFVSS (power), 137 AVSS (power), 150 AVSS (power), 151 AVREFVSS (power), 156 VSS (power), 164 VSS (power), 175 VSS (power)

## R5F72165BDFA
designator U?
32-Bit RISC Microcomputer, SH7216 Series, SH2A-FPU core, 200MHz, 512K ROM, 64K RAM, 20x20mm 176-pin PLQFP, -40 to 85°C; Published: 28-Aug-2009; DatasheetVersion: Rev.1.01, May-2009; PackageVersion: Sep-2005; PackageReference: PLQP0176LB-A; Publisher: Altium Limited; PackageDescription: 176-Pin Plastic Low Profile QFP, 20 x 20 x 1.4 mm Body, 0.4 mm Pitch; Code_JEITA: P-LQFP176-20x20-0.40; ComponentLink1Description: Manufacturer Link; ComponentLink1URL: http://www.renesas.com/fmwk.jsp?cnt=sh7216_root.jsp&fp=/products/mpumcu/superh_family/sh7216_series/sh7216_group/; ComponentLink2Description: Datasheet; ComponentLink2URL: http://documentation.renesas.com/eng/products/mpumcu/rej09b0543_sh7216hm.pdf; ComponentLink3Description: Packaging Specification; ComponentLink3URL: http://sg.renesas.com/media/products/common_info/package/pdf/ic/code/plqp0176lb_a.pdf
footprint PLQP0176LB-A_N (Shrink QFP, 176-Leads, Body 20x20mm, Pitch 0.4mm, IPC Medium Density)
footprint PLQP0176LB-A_L (Shrink QFP, 176-Leads, Body 20x20mm, Pitch 0.4mm, IPC High Density)
footprint PLQP0176LB-A_M (Shrink QFP, 176-Leads, Body 20x20mm, Pitch 0.4mm, IPC Low Density)
part A pins: 1 PE1/TIOC0B/TIOC4BS/TEND0/MDC (io), 2 PE2/TIOC0C/TIOC4CS/DREQ1/WOL (io), 3 PE3/TIOC0D/TIOC4DS/TEND1/COL (io), 4 PE4/TIOC1A/SCK3/~{POE8}/IRQ4/CRS (io), 5 PE5/TIOC1B/TIOC3BS/TXD3/MDIO (io), 6 PE6/TIOC2A/TIOC3DS/RXD3 (io), 9 PA21/~{RD}/CKE/~{BACK}/~{POE3}/IRQ5/SCK1/~{FRAME} (io), 10 PA20/DQMLL/~{WRL}/~{CASU}/~{BREQ}/~{POE4}/IRQ6/TXD1/~{AH} (io), 11 PA19/DQMLU/~{WRH}/~{RASU}/~{WAIT}/~{POE8}/IRQ7/RXD1/~{BS} (io), 12 PA18/CK (io), 14 PA17/~{RD} (io), 15 PA16/~{WRL}/DQMLL (io), 16 PA15/~{WRH}/DQMLU (io), 17 PA14/~{WRHH}/DQMUU/~{RASL} (io), 18 PA13/~{WRHL}/DQMUL/~{CASL} (io), 21 PC0/A0/~{POE0}/IRQ4 (io), 22 PC1/A1 (io), 23 PC2/A2 (io), 24 PC3/A3 (io), 25 PC4/A4 (io), 26 PC5/A5 (io), 27 PC6/A6 (io), 28 PC7/A7 (io), 30 PC8/A8/CRx0/RXD0 (io), 31 PC9/A9/CTx0/TXD0 (io), 32 PC10/A10/TIOC1A/CRx0/RXD0 (io), 33 PC11/A11/TIOC1B/CTx0/TXD0 (io), 34 PC12/A12/TCLKA (io), 35 PC13/A13/IRQ0/TCLKB (io), 36 PC14/A14/IRQ1/TCLKC (io), 37 PC15/A15/IRQ2/TCLKD (io), 41 PB0/A16/IRQ0/RD/~{WR}/TIOC2A (io), 42 PB1/A17/~{ADTRG}/TIOC0A/IRQ1/~{IRQOUT}/~{REFOUT} (io), 43 PB2/A18/~{RASL}/IRQ2/RXD3/TIOC0B/~{BACK}/~{FRAME} (io), 44 PB3/A19/~{CASL}/IRQ3/TXD3/TIOC0C/~{BREQ}/~{AH} (io), 45 PB4/A20/IRQ4/SCK3/TIOC0D/~{WAIT}/~{BACK}/~{BS} (io), 46 PB5/A21/IRQ5/RXD0/~{BREQ} (io), 47 PB6/A22/IRQ6/TXD0/TCLKD/~{WAIT} (io), 48 PB7/A23/IRQ7/SCK4/TCLKC/TEND0 (io), 52 PB8/A24/~{CS2}/TCLKB/DREQ0/RXD4 (io), 53 PB9/A25/~{CS3}/TCLKA/DACK0/TXD4 (io), 54 PB10/RXD2/~{CS6}/~{CS2}/~{CS0}/IRQ0 (io), 55 PB11/TXD2/~{CS7}/~{CS3}/~{CS1}/IRQ1 (io), 57 PD0/D0 (io), 58 PD1/D1 (io), 59 PD2/D2/TIC5U/RXD2 (io), 60 PD3/D3/TIC5V/TXD2 (io), 61 PD4/D4/TIC5W/SCK2 (io), 62 PD5/D5/TIC5US (io), 63 PD6/D6/TIC5VS (io), 64 PD7/D7/TIC5WS (io), 67 PD8/D8/TIOC3AS (io), 68 PD9/D9/TIOC3CS (io), 69 PD10/D10/TIOC3BS (io), 70 PD11/D11/TIOC3DS (io), 71 PD12/D12/TIOC4AS (io), 72 PD13/D13/TIOC4BS (io), 73 PD14/D14/TIOC4CS (io), 74 PD15/D15/TIOC4DS (io), 77 PD16/D16/IRQ0/~{POE0}/~{UBCTRG}/AUDATA0 (io), 78 PD17/D17/IRQ1/~{POE4}/~{ADTRG}/AUDATA1 (io), 79 PD18/D18/IRQ2/AUDATA2/MDIO (io), 80 PD19/D19/IRQ3/AUDATA3/LNKSTA (io), 81 PD20/D20/IRQ4/~{AUDSYNC}/MDC (io), 82 PD21/D21/IRQ5/TEND1/AUDCK/EXOUT (io), 83 PD22/D22/IRQ6/DREQ1/WOL (io), 84 PD23/D23/IRQ7/DACK1/COL (io), 87 PD24/D24/TIOC4DS/CRS (io), 88 PD25/D25/TIOC4CS/RX_CLK (io), 89 PD26/D26/TIOC4BS/MII_RXD0 (io), 90 PD27/D27/TIOC4AS/MII_RXD1 (io), 91 PD28/D28/TIOC3DS/MII_RXD2 (io), 92 PD29/D29/TIOC3BS/MII_RXD3 (io), 93 PD30/D30/TIOC3CS/SSL3/RX_ER (io), 94 PD31/D31/TIOC3AS/SSL2/RX_DV (io), 97 PA12/IRQ0/TIC5U/~{CS0}/SSL1/TX_CLK (io), 98 PA11/IRQ1/TIC5V/~{CS1}/TX_EN/CRx0/RXD0 (io), 99 PA10/IRQ2/TIC5W/~{CS2}/MII_TXD0/CTx0/TXD0 (io), 100 PA9/IRQ3/TCLKD/~{CS3}/MII_TXD1/SSL0/SCK0 (io), 101 PA8/IRQ4/TCLKC/~{CS4}/MII_TXD2/MISO/RXD1 (io), 102 PA7/IRQ5/TCLKB/~{CS5}/MII_TXD3/MOSI/TXD1 (io), 103 PA6/IRQ6/TCLKA/~{CS6}/TX_ER/RSPCK/SCK1 (io), 107 USBXTAL (out), 109 USBEXTAL (in), 110 PB12/SCL/~{POE1}/IRQ2 (io), 111 PB13/SDA/~{POE2}/IRQ3 (io), 113 USD+ (io), 114 USD- (io), 116 PB14/IRQ6 (io), 117 PB15/IRQ7 (io), 118 VBUS (in), 119 XTAL (out), 121 EXTAL (in), 123 NMI (in), 133 ~{RES} (in), 134 FWE/~{ASEBRKAK}/~{ASEBRK} (io), 135 ~{ASEMD0} (in), 138 PF0/AN0 (in), 139 PF1/AN1 (in), 140 PF2/AN2 (in), 141 PF3/AN3 (in), 143 AVREF (power), 144 AVREF (power), 146 PF4/AN4 (in), 147 PF5/AN5 (in), 148 PF6/AN6 (in), 149 PF7/AN7 (in), 152 MD0 (in), 153 MD1 (in), 154 ~{WDTOVF} (out), 157 PA0/RXD0/~{CS0}/CRx0/IRQ4/RX_CLK (io), 158 PA1/TXD0/~{CS1}/CTx0/IRQ5/MII_RXD0 (io), 159 PA2/SCK0/SSL0/~{CS2}/TCLKD/MII_RXD1 (io), 160 PA3/RXD1/MISO/~{CS3}/TCLKC/MII_RXD2 (io), 161 PA4/TXD1/MOSI/~{CS4}/TCLKB/MII_RXD3 (io), 162 PA5/SCK1/RSPCK/~{CS5}/TCLKA/RX_ER (io), 165 PE7/TIOC2B/~{UBCTRG}/RXD2/SSL1/RX_DV (io), 166 PE8/TIOC3A/DREQ2/SCK2/SSL2/EXOUT (io), 167 PE10/TIOC3C/DREQ3/TXD2/SSL3/TX_CLK (io), 168 PE9/TIOC3B/DACK2/TX_EN (io), 169 PE11/TIOC3D/DACK3/MII_TXD0 (io), 170 PE12/TIOC4A/MII_TXD1 (io), 171 PE13/TIOC4B/~{MRES}/MII_TXD2 (io), 172 PE14/DACK0/TIOC4C/MII_TXD3 (io), 173 PE15/DACK1/TIOC4D/~{IRQOUT}/~{REFOUT}/TX_ER (io), 176 PE0/TIOC0A/TIOC4AS/DREQ0/LNKSTA (io)
part B pins: 125 TDI (in), 126 TDO (out), 127 TCK (in), 128 TMS (in), 129 ~{TRST} (in)
part C pins: 7 VCL (power), 19 VCCQ (power), 38 VCCQ (power), 40 VCL (power), 49 VCL (power), 51 VCCQ (power), 65 VCCQ (power), 75 VCL (power), 85 VCCQ (power), 95 VCCQ (power), 104 VCCQ (power), 106 VCL (power), 112 DrVCC (VCCQ) (power), 124 PLLVCC (power), 130 VCCQ (power), 132 VCL (power), 142 AVCC (power), 145 AVCC (power), 155 VCL (power), 163 VCCQ (power), 174 VCCQ (power)
part D pins: 8 VSS (power), 13 VSS (power), 20 VSS (power), 29 VSS (power), 39 VSS (power), 50 VSS (power), 56 VSS (power), 66 VSS (power), 76 VSS (power), 86 VSS (power), 96 VSS (power), 105 VSS (power), 108 VSS (power), 115 DrVSS (power), 120 VSS (power), 122 PLLVSS (power), 131 VSS (power), 136 AVREFVSS (power), 137 AVSS (power), 150 AVSS (power), 151 AVREFVSS (power), 156 VSS (power), 164 VSS (power), 175 VSS (power)

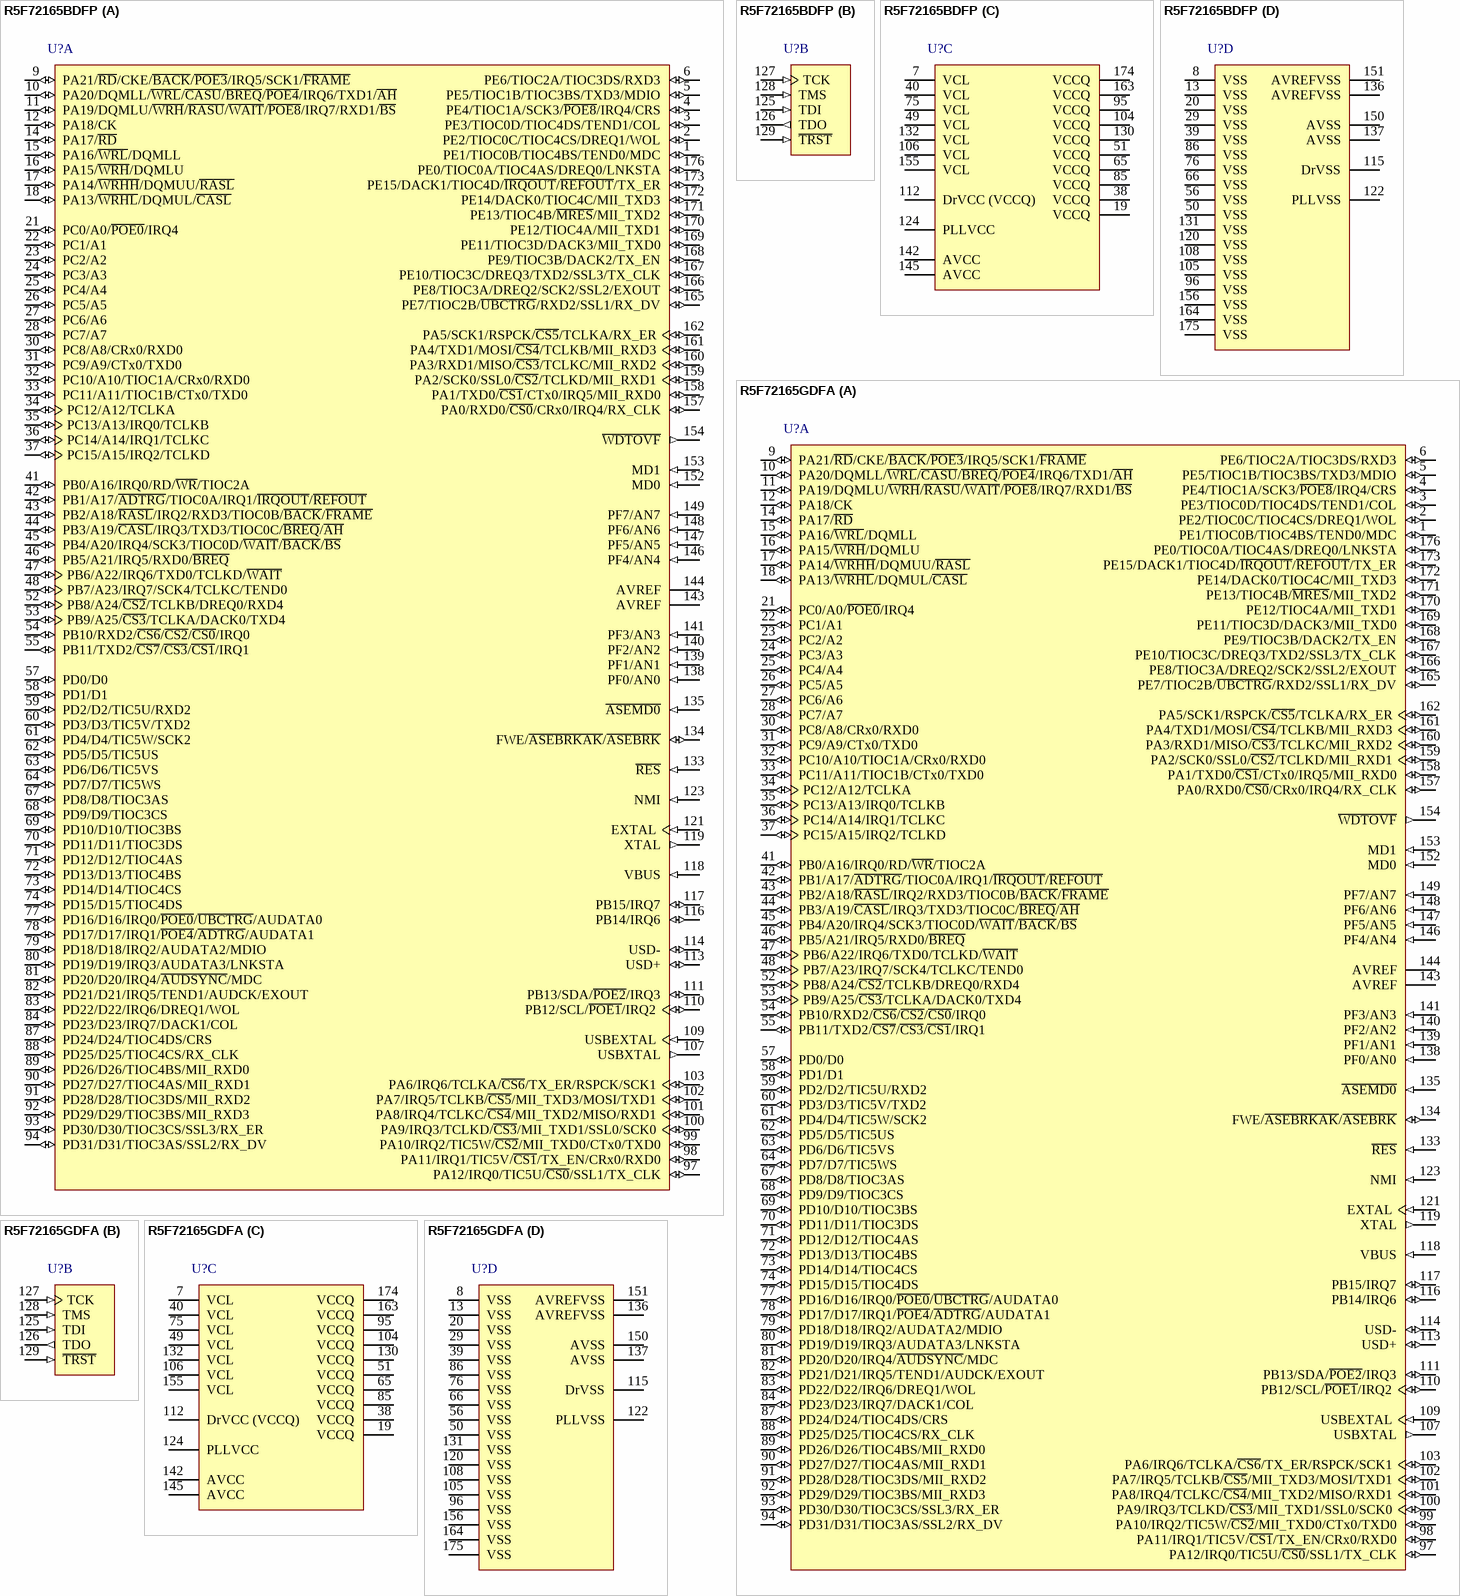
[diagram p172: symbols R5F72165BDFP to R5F72165GDFA]

## R5F72165BDFP
designator U?
32-Bit RISC Microcomputer, SH7216 Series, SH2A-FPU core, 200MHz, 512K ROM, 64K RAM, 24x24mm 176-pin QFP, -40 to 85°C; Published: 28-Aug-2009; DatasheetVersion: Rev.1.01, May-2009; PackageVersion: Oct-2005; PackageReference: PLQP0176KB-A; Publisher: Altium Limited; PackageDescription: 176-Pin Plastic Low Profile QFP, 24 x 24 x 1.4 mm Body, 0.5 mm Pitch; Code_JEITA: P-LQFP176-24x24-0.50; ComponentLink1Description: Manufacturer Link; ComponentLink1URL: http://www.renesas.com/fmwk.jsp?cnt=sh7216_root.jsp&fp=/products/mpumcu/superh_family/sh7216_series/sh7216_group/; ComponentLink2Description: Datasheet; ComponentLink2URL: http://documentation.renesas.com/eng/products/mpumcu/rej09b0543_sh7216hm.pdf; ComponentLink3Description: Packaging Specification; ComponentLink3URL: http://sg.renesas.com/media/products/common_info/package/pdf/ic/code/plqp0176kb_a.pdf
footprint PLQP0176KB-A_N (Shrink QFP, 176-Leads, Body 24x24mm, Pitch 0.5mm, IPC Medium Density)
footprint PLQP0176KB-A_L (Shrink QFP, 176-Leads, Body 24x24mm, Pitch 0.5mm, IPC High Density)
footprint PLQP0176KB-A_M (Shrink QFP, 176-Leads, Body 24x24mm, Pitch 0.5mm, IPC Low Density)
part A pins: 1 PE1/TIOC0B/TIOC4BS/TEND0/MDC (io), 2 PE2/TIOC0C/TIOC4CS/DREQ1/WOL (io), 3 PE3/TIOC0D/TIOC4DS/TEND1/COL (io), 4 PE4/TIOC1A/SCK3/~{POE8}/IRQ4/CRS (io), 5 PE5/TIOC1B/TIOC3BS/TXD3/MDIO (io), 6 PE6/TIOC2A/TIOC3DS/RXD3 (io), 9 PA21/~{RD}/CKE/~{BACK}/~{POE3}/IRQ5/SCK1/~{FRAME} (io), 10 PA20/DQMLL/~{WRL}/~{CASU}/~{BREQ}/~{POE4}/IRQ6/TXD1/~{AH} (io), 11 PA19/DQMLU/~{WRH}/~{RASU}/~{WAIT}/~{POE8}/IRQ7/RXD1/~{BS} (io), 12 PA18/CK (io), 14 PA17/~{RD} (io), 15 PA16/~{WRL}/DQMLL (io), 16 PA15/~{WRH}/DQMLU (io), 17 PA14/~{WRHH}/DQMUU/~{RASL} (io), 18 PA13/~{WRHL}/DQMUL/~{CASL} (io), 21 PC0/A0/~{POE0}/IRQ4 (io), 22 PC1/A1 (io), 23 PC2/A2 (io), 24 PC3/A3 (io), 25 PC4/A4 (io), 26 PC5/A5 (io), 27 PC6/A6 (io), 28 PC7/A7 (io), 30 PC8/A8/CRx0/RXD0 (io), 31 PC9/A9/CTx0/TXD0 (io), 32 PC10/A10/TIOC1A/CRx0/RXD0 (io), 33 PC11/A11/TIOC1B/CTx0/TXD0 (io), 34 PC12/A12/TCLKA (io), 35 PC13/A13/IRQ0/TCLKB (io), 36 PC14/A14/IRQ1/TCLKC (io), 37 PC15/A15/IRQ2/TCLKD (io), 41 PB0/A16/IRQ0/RD/~{WR}/TIOC2A (io), 42 PB1/A17/~{ADTRG}/TIOC0A/IRQ1/~{IRQOUT}/~{REFOUT} (io), 43 PB2/A18/~{RASL}/IRQ2/RXD3/TIOC0B/~{BACK}/~{FRAME} (io), 44 PB3/A19/~{CASL}/IRQ3/TXD3/TIOC0C/~{BREQ}/~{AH} (io), 45 PB4/A20/IRQ4/SCK3/TIOC0D/~{WAIT}/~{BACK}/~{BS} (io), 46 PB5/A21/IRQ5/RXD0/~{BREQ} (io), 47 PB6/A22/IRQ6/TXD0/TCLKD/~{WAIT} (io), 48 PB7/A23/IRQ7/SCK4/TCLKC/TEND0 (io), 52 PB8/A24/~{CS2}/TCLKB/DREQ0/RXD4 (io), 53 PB9/A25/~{CS3}/TCLKA/DACK0/TXD4 (io), 54 PB10/RXD2/~{CS6}/~{CS2}/~{CS0}/IRQ0 (io), 55 PB11/TXD2/~{CS7}/~{CS3}/~{CS1}/IRQ1 (io), 57 PD0/D0 (io), 58 PD1/D1 (io), 59 PD2/D2/TIC5U/RXD2 (io), 60 PD3/D3/TIC5V/TXD2 (io), 61 PD4/D4/TIC5W/SCK2 (io), 62 PD5/D5/TIC5US (io), 63 PD6/D6/TIC5VS (io), 64 PD7/D7/TIC5WS (io), 67 PD8/D8/TIOC3AS (io), 68 PD9/D9/TIOC3CS (io), 69 PD10/D10/TIOC3BS (io), 70 PD11/D11/TIOC3DS (io), 71 PD12/D12/TIOC4AS (io), 72 PD13/D13/TIOC4BS (io), 73 PD14/D14/TIOC4CS (io), 74 PD15/D15/TIOC4DS (io), 77 PD16/D16/IRQ0/~{POE0}/~{UBCTRG}/AUDATA0 (io), 78 PD17/D17/IRQ1/~{POE4}/~{ADTRG}/AUDATA1 (io), 79 PD18/D18/IRQ2/AUDATA2/MDIO (io), 80 PD19/D19/IRQ3/AUDATA3/LNKSTA (io), 81 PD20/D20/IRQ4/~{AUDSYNC}/MDC (io), 82 PD21/D21/IRQ5/TEND1/AUDCK/EXOUT (io), 83 PD22/D22/IRQ6/DREQ1/WOL (io), 84 PD23/D23/IRQ7/DACK1/COL (io), 87 PD24/D24/TIOC4DS/CRS (io), 88 PD25/D25/TIOC4CS/RX_CLK (io), 89 PD26/D26/TIOC4BS/MII_RXD0 (io), 90 PD27/D27/TIOC4AS/MII_RXD1 (io), 91 PD28/D28/TIOC3DS/MII_RXD2 (io), 92 PD29/D29/TIOC3BS/MII_RXD3 (io), 93 PD30/D30/TIOC3CS/SSL3/RX_ER (io), 94 PD31/D31/TIOC3AS/SSL2/RX_DV (io), 97 PA12/IRQ0/TIC5U/~{CS0}/SSL1/TX_CLK (io), 98 PA11/IRQ1/TIC5V/~{CS1}/TX_EN/CRx0/RXD0 (io), 99 PA10/IRQ2/TIC5W/~{CS2}/MII_TXD0/CTx0/TXD0 (io), 100 PA9/IRQ3/TCLKD/~{CS3}/MII_TXD1/SSL0/SCK0 (io), 101 PA8/IRQ4/TCLKC/~{CS4}/MII_TXD2/MISO/RXD1 (io), 102 PA7/IRQ5/TCLKB/~{CS5}/MII_TXD3/MOSI/TXD1 (io), 103 PA6/IRQ6/TCLKA/~{CS6}/TX_ER/RSPCK/SCK1 (io), 107 USBXTAL (out), 109 USBEXTAL (in), 110 PB12/SCL/~{POE1}/IRQ2 (io), 111 PB13/SDA/~{POE2}/IRQ3 (io), 113 USD+ (io), 114 USD- (io), 116 PB14/IRQ6 (io), 117 PB15/IRQ7 (io), 118 VBUS (in), 119 XTAL (out), 121 EXTAL (in), 123 NMI (in), 133 ~{RES} (in), 134 FWE/~{ASEBRKAK}/~{ASEBRK} (io), 135 ~{ASEMD0} (in), 138 PF0/AN0 (in), 139 PF1/AN1 (in), 140 PF2/AN2 (in), 141 PF3/AN3 (in), 143 AVREF (power), 144 AVREF (power), 146 PF4/AN4 (in), 147 PF5/AN5 (in), 148 PF6/AN6 (in), 149 PF7/AN7 (in), 152 MD0 (in), 153 MD1 (in), 154 ~{WDTOVF} (out), 157 PA0/RXD0/~{CS0}/CRx0/IRQ4/RX_CLK (io), 158 PA1/TXD0/~{CS1}/CTx0/IRQ5/MII_RXD0 (io), 159 PA2/SCK0/SSL0/~{CS2}/TCLKD/MII_RXD1 (io), 160 PA3/RXD1/MISO/~{CS3}/TCLKC/MII_RXD2 (io), 161 PA4/TXD1/MOSI/~{CS4}/TCLKB/MII_RXD3 (io), 162 PA5/SCK1/RSPCK/~{CS5}/TCLKA/RX_ER (io), 165 PE7/TIOC2B/~{UBCTRG}/RXD2/SSL1/RX_DV (io), 166 PE8/TIOC3A/DREQ2/SCK2/SSL2/EXOUT (io), 167 PE10/TIOC3C/DREQ3/TXD2/SSL3/TX_CLK (io), 168 PE9/TIOC3B/DACK2/TX_EN (io), 169 PE11/TIOC3D/DACK3/MII_TXD0 (io), 170 PE12/TIOC4A/MII_TXD1 (io), 171 PE13/TIOC4B/~{MRES}/MII_TXD2 (io), 172 PE14/DACK0/TIOC4C/MII_TXD3 (io), 173 PE15/DACK1/TIOC4D/~{IRQOUT}/~{REFOUT}/TX_ER (io), 176 PE0/TIOC0A/TIOC4AS/DREQ0/LNKSTA (io)
part B pins: 125 TDI (in), 126 TDO (out), 127 TCK (in), 128 TMS (in), 129 ~{TRST} (in)
part C pins: 7 VCL (power), 19 VCCQ (power), 38 VCCQ (power), 40 VCL (power), 49 VCL (power), 51 VCCQ (power), 65 VCCQ (power), 75 VCL (power), 85 VCCQ (power), 95 VCCQ (power), 104 VCCQ (power), 106 VCL (power), 112 DrVCC (VCCQ) (power), 124 PLLVCC (power), 130 VCCQ (power), 132 VCL (power), 142 AVCC (power), 145 AVCC (power), 155 VCL (power), 163 VCCQ (power), 174 VCCQ (power)
part D pins: 8 VSS (power), 13 VSS (power), 20 VSS (power), 29 VSS (power), 39 VSS (power), 50 VSS (power), 56 VSS (power), 66 VSS (power), 76 VSS (power), 86 VSS (power), 96 VSS (power), 105 VSS (power), 108 VSS (power), 115 DrVSS (power), 120 VSS (power), 122 PLLVSS (power), 131 VSS (power), 136 AVREFVSS (power), 137 AVSS (power), 150 AVSS (power), 151 AVREFVSS (power), 156 VSS (power), 164 VSS (power), 175 VSS (power)

## R5F72165GDFA
designator U?
32-bit RISC Microcomputer, SH7216 Series, SH2A-FPU core, 200MHz, 512K ROM, 64K RAM, 176-Pin QFP; Published: 16-Feb-2010; DatasheetVersion: Rev.1.01, May-2009; PackageVersion: Sep-2005; PackageReference: PLQP0176LB-A; Publisher: Altium Limited; PackageDescription: 176-Pin Plastic Low Profile QFP, 20 x 20 x 1.4 mm Body, 0.4 mm Pitch; Code_JEITA: P-LQFP176-20x20-0.40; ComponentLink1Description: Manufacturer Link; ComponentLink1URL: http://www.renesas.com/fmwk.jsp?cnt=sh7216_root.jsp&fp=/products/mpumcu/superh_family/sh7216_series/sh7216_group/; ComponentLink2Description: Datasheet; ComponentLink2URL: http://documentation.renesas.com/eng/products/mpumcu/rej09b0543_sh7216hm.pdf; ComponentLink3Description: Packaging Specification; ComponentLink3URL: http://sg.renesas.com/media/products/common_info/package/pdf/ic/code/plqp0176lb_a.pdf
footprint PLQP0176LB-A_N (Shrink QFP, 176-Leads, Body 20x20mm, Pitch 0.4mm, IPC Medium Density)
footprint PLQP0176LB-A_L (Shrink QFP, 176-Leads, Body 20x20mm, Pitch 0.4mm, IPC High Density)
footprint PLQP0176LB-A_M (Shrink QFP, 176-Leads, Body 20x20mm, Pitch 0.4mm, IPC Low Density)
part A pins: 1 PE1/TIOC0B/TIOC4BS/TEND0/MDC (io), 2 PE2/TIOC0C/TIOC4CS/DREQ1/WOL (io), 3 PE3/TIOC0D/TIOC4DS/TEND1/COL (io), 4 PE4/TIOC1A/SCK3/~{POE8}/IRQ4/CRS (io), 5 PE5/TIOC1B/TIOC3BS/TXD3/MDIO (io), 6 PE6/TIOC2A/TIOC3DS/RXD3 (io), 9 PA21/~{RD}/CKE/~{BACK}/~{POE3}/IRQ5/SCK1/~{FRAME} (io), 10 PA20/DQMLL/~{WRL}/~{CASU}/~{BREQ}/~{POE4}/IRQ6/TXD1/~{AH} (io), 11 PA19/DQMLU/~{WRH}/~{RASU}/~{WAIT}/~{POE8}/IRQ7/RXD1/~{BS} (io), 12 PA18/CK (io), 14 PA17/~{RD} (io), 15 PA16/~{WRL}/DQMLL (io), 16 PA15/~{WRH}/DQMLU (io), 17 PA14/~{WRHH}/DQMUU/~{RASL} (io), 18 PA13/~{WRHL}/DQMUL/~{CASL} (io), 21 PC0/A0/~{POE0}/IRQ4 (io), 22 PC1/A1 (io), 23 PC2/A2 (io), 24 PC3/A3 (io), 25 PC4/A4 (io), 26 PC5/A5 (io), 27 PC6/A6 (io), 28 PC7/A7 (io), 30 PC8/A8/CRx0/RXD0 (io), 31 PC9/A9/CTx0/TXD0 (io), 32 PC10/A10/TIOC1A/CRx0/RXD0 (io), 33 PC11/A11/TIOC1B/CTx0/TXD0 (io), 34 PC12/A12/TCLKA (io), 35 PC13/A13/IRQ0/TCLKB (io), 36 PC14/A14/IRQ1/TCLKC (io), 37 PC15/A15/IRQ2/TCLKD (io), 41 PB0/A16/IRQ0/RD/~{WR}/TIOC2A (io), 42 PB1/A17/~{ADTRG}/TIOC0A/IRQ1/~{IRQOUT}/~{REFOUT} (io), 43 PB2/A18/~{RASL}/IRQ2/RXD3/TIOC0B/~{BACK}/~{FRAME} (io), 44 PB3/A19/~{CASL}/IRQ3/TXD3/TIOC0C/~{BREQ}/~{AH} (io), 45 PB4/A20/IRQ4/SCK3/TIOC0D/~{WAIT}/~{BACK}/~{BS} (io), 46 PB5/A21/IRQ5/RXD0/~{BREQ} (io), 47 PB6/A22/IRQ6/TXD0/TCLKD/~{WAIT} (io), 48 PB7/A23/IRQ7/SCK4/TCLKC/TEND0 (io), 52 PB8/A24/~{CS2}/TCLKB/DREQ0/RXD4 (io), 53 PB9/A25/~{CS3}/TCLKA/DACK0/TXD4 (io), 54 PB10/RXD2/~{CS6}/~{CS2}/~{CS0}/IRQ0 (io), 55 PB11/TXD2/~{CS7}/~{CS3}/~{CS1}/IRQ1 (io), 57 PD0/D0 (io), 58 PD1/D1 (io), 59 PD2/D2/TIC5U/RXD2 (io), 60 PD3/D3/TIC5V/TXD2 (io), 61 PD4/D4/TIC5W/SCK2 (io), 62 PD5/D5/TIC5US (io), 63 PD6/D6/TIC5VS (io), 64 PD7/D7/TIC5WS (io), 67 PD8/D8/TIOC3AS (io), 68 PD9/D9/TIOC3CS (io), 69 PD10/D10/TIOC3BS (io), 70 PD11/D11/TIOC3DS (io), 71 PD12/D12/TIOC4AS (io), 72 PD13/D13/TIOC4BS (io), 73 PD14/D14/TIOC4CS (io), 74 PD15/D15/TIOC4DS (io), 77 PD16/D16/IRQ0/~{POE0}/~{UBCTRG}/AUDATA0 (io), 78 PD17/D17/IRQ1/~{POE4}/~{ADTRG}/AUDATA1 (io), 79 PD18/D18/IRQ2/AUDATA2/MDIO (io), 80 PD19/D19/IRQ3/AUDATA3/LNKSTA (io), 81 PD20/D20/IRQ4/~{AUDSYNC}/MDC (io), 82 PD21/D21/IRQ5/TEND1/AUDCK/EXOUT (io), 83 PD22/D22/IRQ6/DREQ1/WOL (io), 84 PD23/D23/IRQ7/DACK1/COL (io), 87 PD24/D24/TIOC4DS/CRS (io), 88 PD25/D25/TIOC4CS/RX_CLK (io), 89 PD26/D26/TIOC4BS/MII_RXD0 (io), 90 PD27/D27/TIOC4AS/MII_RXD1 (io), 91 PD28/D28/TIOC3DS/MII_RXD2 (io), 92 PD29/D29/TIOC3BS/MII_RXD3 (io), 93 PD30/D30/TIOC3CS/SSL3/RX_ER (io), 94 PD31/D31/TIOC3AS/SSL2/RX_DV (io), 97 PA12/IRQ0/TIC5U/~{CS0}/SSL1/TX_CLK (io), 98 PA11/IRQ1/TIC5V/~{CS1}/TX_EN/CRx0/RXD0 (io), 99 PA10/IRQ2/TIC5W/~{CS2}/MII_TXD0/CTx0/TXD0 (io), 100 PA9/IRQ3/TCLKD/~{CS3}/MII_TXD1/SSL0/SCK0 (io), 101 PA8/IRQ4/TCLKC/~{CS4}/MII_TXD2/MISO/RXD1 (io), 102 PA7/IRQ5/TCLKB/~{CS5}/MII_TXD3/MOSI/TXD1 (io), 103 PA6/IRQ6/TCLKA/~{CS6}/TX_ER/RSPCK/SCK1 (io), 107 USBXTAL (out), 109 USBEXTAL (in), 110 PB12/SCL/~{POE1}/IRQ2 (io), 111 PB13/SDA/~{POE2}/IRQ3 (io), 113 USD+ (io), 114 USD- (io), 116 PB14/IRQ6 (io), 117 PB15/IRQ7 (io), 118 VBUS (in), 119 XTAL (out), 121 EXTAL (in), 123 NMI (in), 133 ~{RES} (in), 134 FWE/~{ASEBRKAK}/~{ASEBRK} (io), 135 ~{ASEMD0} (in), 138 PF0/AN0 (in), 139 PF1/AN1 (in), 140 PF2/AN2 (in), 141 PF3/AN3 (in), 143 AVREF (power), 144 AVREF (power), 146 PF4/AN4 (in), 147 PF5/AN5 (in), 148 PF6/AN6 (in), 149 PF7/AN7 (in), 152 MD0 (in), 153 MD1 (in), 154 ~{WDTOVF} (out), 157 PA0/RXD0/~{CS0}/CRx0/IRQ4/RX_CLK (io), 158 PA1/TXD0/~{CS1}/CTx0/IRQ5/MII_RXD0 (io), 159 PA2/SCK0/SSL0/~{CS2}/TCLKD/MII_RXD1 (io), 160 PA3/RXD1/MISO/~{CS3}/TCLKC/MII_RXD2 (io), 161 PA4/TXD1/MOSI/~{CS4}/TCLKB/MII_RXD3 (io), 162 PA5/SCK1/RSPCK/~{CS5}/TCLKA/RX_ER (io), 165 PE7/TIOC2B/~{UBCTRG}/RXD2/SSL1/RX_DV (io), 166 PE8/TIOC3A/DREQ2/SCK2/SSL2/EXOUT (io), 167 PE10/TIOC3C/DREQ3/TXD2/SSL3/TX_CLK (io), 168 PE9/TIOC3B/DACK2/TX_EN (io), 169 PE11/TIOC3D/DACK3/MII_TXD0 (io), 170 PE12/TIOC4A/MII_TXD1 (io), 171 PE13/TIOC4B/~{MRES}/MII_TXD2 (io), 172 PE14/DACK0/TIOC4C/MII_TXD3 (io), 173 PE15/DACK1/TIOC4D/~{IRQOUT}/~{REFOUT}/TX_ER (io), 176 PE0/TIOC0A/TIOC4AS/DREQ0/LNKSTA (io)
part B pins: 125 TDI (in), 126 TDO (out), 127 TCK (in), 128 TMS (in), 129 ~{TRST} (in)
part C pins: 7 VCL (power), 19 VCCQ (power), 38 VCCQ (power), 40 VCL (power), 49 VCL (power), 51 VCCQ (power), 65 VCCQ (power), 75 VCL (power), 85 VCCQ (power), 95 VCCQ (power), 104 VCCQ (power), 106 VCL (power), 112 DrVCC (VCCQ) (power), 124 PLLVCC (power), 130 VCCQ (power), 132 VCL (power), 142 AVCC (power), 145 AVCC (power), 155 VCL (power), 163 VCCQ (power), 174 VCCQ (power)
part D pins: 8 VSS (power), 13 VSS (power), 20 VSS (power), 29 VSS (power), 39 VSS (power), 50 VSS (power), 56 VSS (power), 66 VSS (power), 76 VSS (power), 86 VSS (power), 96 VSS (power), 105 VSS (power), 108 VSS (power), 115 DrVSS (power), 120 VSS (power), 122 PLLVSS (power), 131 VSS (power), 136 AVREFVSS (power), 137 AVSS (power), 150 AVSS (power), 151 AVREFVSS (power), 156 VSS (power), 164 VSS (power), 175 VSS (power)

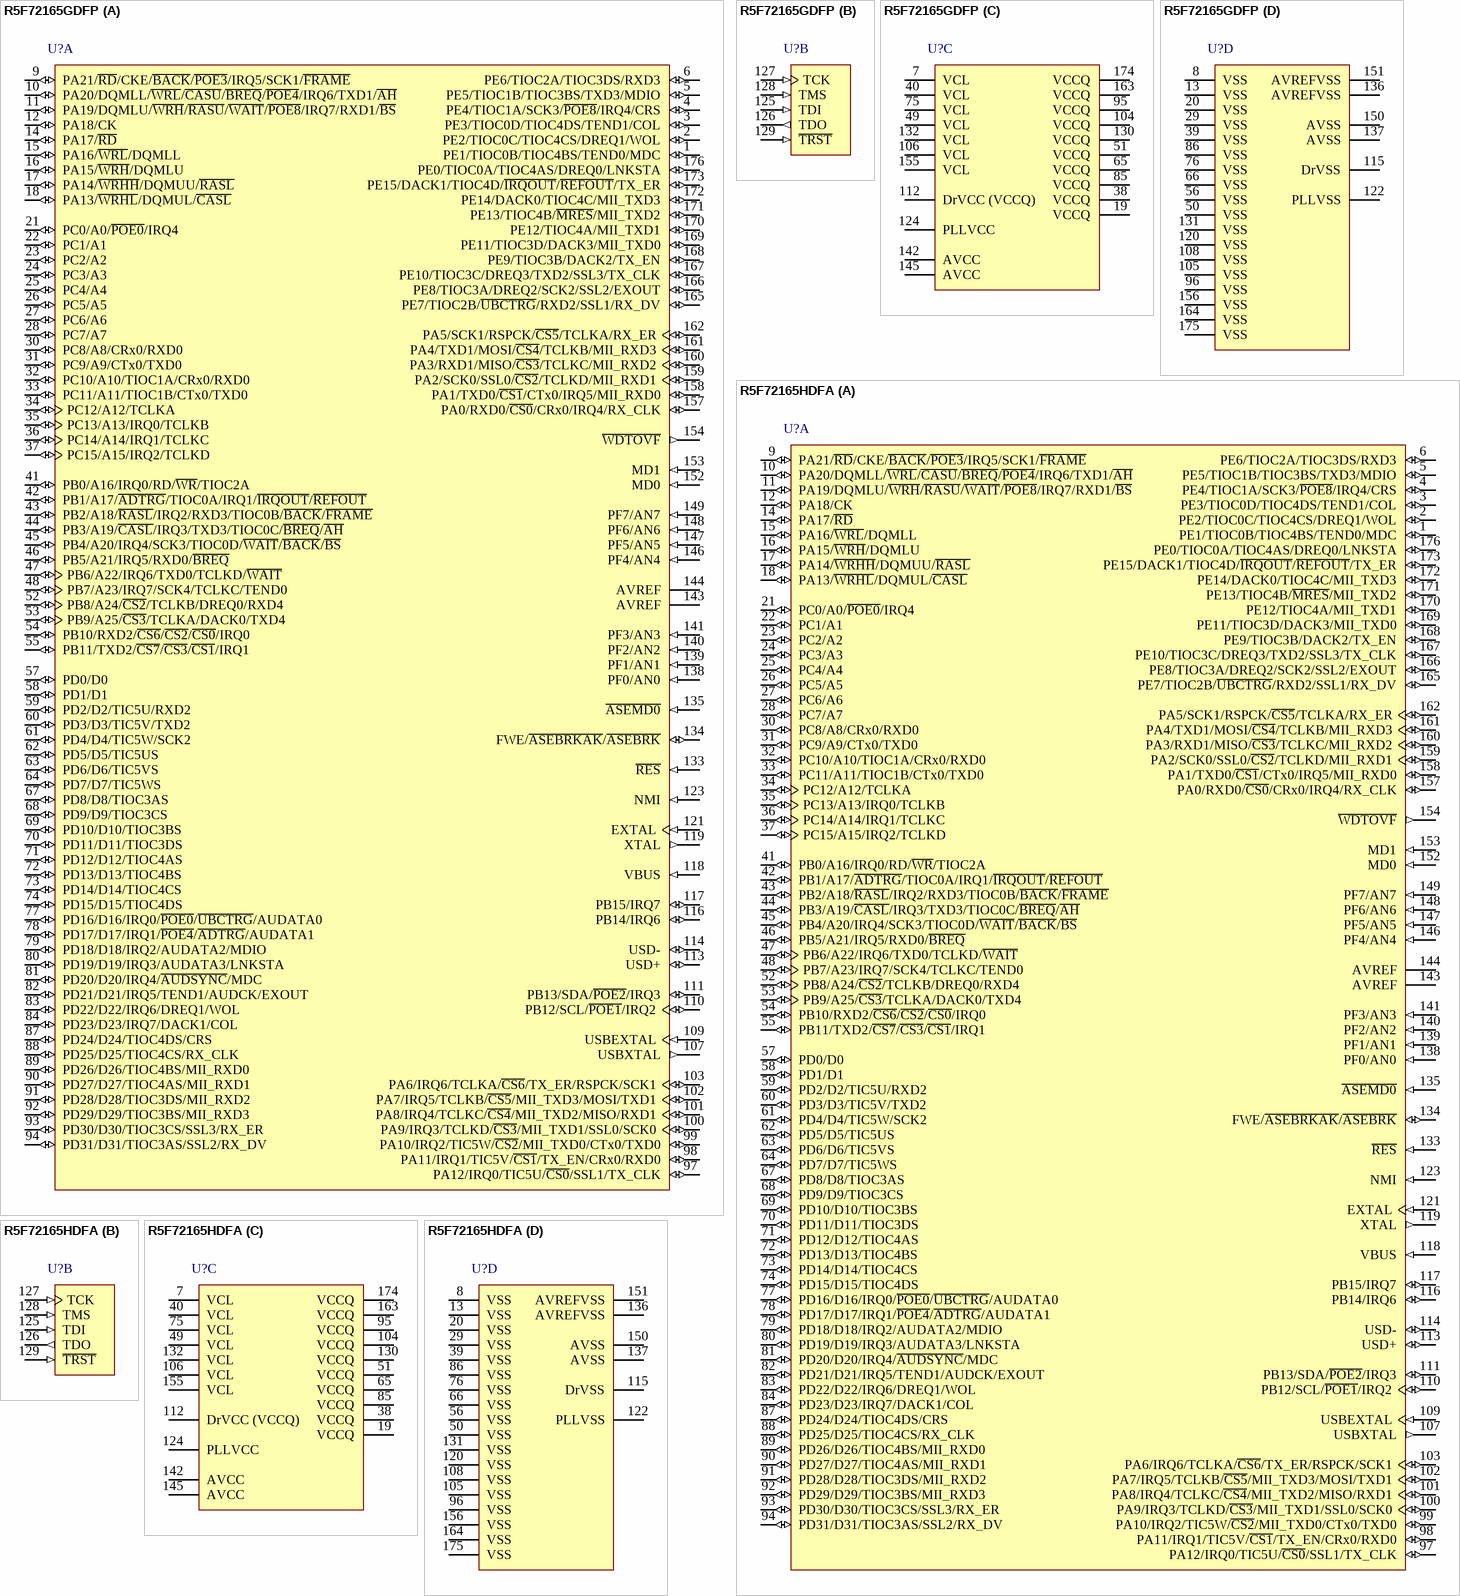
[diagram p173: symbols R5F72165GDFP to R5F72165HDFA]

## R5F72165GDFP
designator U?
32-bit RISC Microcomputer, SH7216 Series, SH2A-FPU core, 200MHz, 512K ROM, 64K RAM, 176-Pin QFP; Published: 16-Feb-2010; DatasheetVersion: Rev.1.01, May-2009; PackageVersion: Oct-2005; PackageReference: PLQP0176KB-A; Publisher: Altium Limited; PackageDescription: 176-Pin Plastic Low Profile QFP, 24 x 24 x 1.4 mm Body, 0.5 mm Pitch; Code_JEITA: P-LQFP176-24x24-0.50; ComponentLink1Description: Manufacturer Link; ComponentLink1URL: http://www.renesas.com/fmwk.jsp?cnt=sh7216_root.jsp&fp=/products/mpumcu/superh_family/sh7216_series/sh7216_group/; ComponentLink2Description: Datasheet; ComponentLink2URL: http://documentation.renesas.com/eng/products/mpumcu/rej09b0543_sh7216hm.pdf; ComponentLink3Description: Packaging Specification; ComponentLink3URL: http://sg.renesas.com/media/products/common_info/package/pdf/ic/code/plqp0176kb_a.pdf
footprint PLQP0176KB-A_N (Shrink QFP, 176-Leads, Body 24x24mm, Pitch 0.5mm, IPC Medium Density)
footprint PLQP0176KB-A_L (Shrink QFP, 176-Leads, Body 24x24mm, Pitch 0.5mm, IPC High Density)
footprint PLQP0176KB-A_M (Shrink QFP, 176-Leads, Body 24x24mm, Pitch 0.5mm, IPC Low Density)
part A pins: 1 PE1/TIOC0B/TIOC4BS/TEND0/MDC (io), 2 PE2/TIOC0C/TIOC4CS/DREQ1/WOL (io), 3 PE3/TIOC0D/TIOC4DS/TEND1/COL (io), 4 PE4/TIOC1A/SCK3/~{POE8}/IRQ4/CRS (io), 5 PE5/TIOC1B/TIOC3BS/TXD3/MDIO (io), 6 PE6/TIOC2A/TIOC3DS/RXD3 (io), 9 PA21/~{RD}/CKE/~{BACK}/~{POE3}/IRQ5/SCK1/~{FRAME} (io), 10 PA20/DQMLL/~{WRL}/~{CASU}/~{BREQ}/~{POE4}/IRQ6/TXD1/~{AH} (io), 11 PA19/DQMLU/~{WRH}/~{RASU}/~{WAIT}/~{POE8}/IRQ7/RXD1/~{BS} (io), 12 PA18/CK (io), 14 PA17/~{RD} (io), 15 PA16/~{WRL}/DQMLL (io), 16 PA15/~{WRH}/DQMLU (io), 17 PA14/~{WRHH}/DQMUU/~{RASL} (io), 18 PA13/~{WRHL}/DQMUL/~{CASL} (io), 21 PC0/A0/~{POE0}/IRQ4 (io), 22 PC1/A1 (io), 23 PC2/A2 (io), 24 PC3/A3 (io), 25 PC4/A4 (io), 26 PC5/A5 (io), 27 PC6/A6 (io), 28 PC7/A7 (io), 30 PC8/A8/CRx0/RXD0 (io), 31 PC9/A9/CTx0/TXD0 (io), 32 PC10/A10/TIOC1A/CRx0/RXD0 (io), 33 PC11/A11/TIOC1B/CTx0/TXD0 (io), 34 PC12/A12/TCLKA (io), 35 PC13/A13/IRQ0/TCLKB (io), 36 PC14/A14/IRQ1/TCLKC (io), 37 PC15/A15/IRQ2/TCLKD (io), 41 PB0/A16/IRQ0/RD/~{WR}/TIOC2A (io), 42 PB1/A17/~{ADTRG}/TIOC0A/IRQ1/~{IRQOUT}/~{REFOUT} (io), 43 PB2/A18/~{RASL}/IRQ2/RXD3/TIOC0B/~{BACK}/~{FRAME} (io), 44 PB3/A19/~{CASL}/IRQ3/TXD3/TIOC0C/~{BREQ}/~{AH} (io), 45 PB4/A20/IRQ4/SCK3/TIOC0D/~{WAIT}/~{BACK}/~{BS} (io), 46 PB5/A21/IRQ5/RXD0/~{BREQ} (io), 47 PB6/A22/IRQ6/TXD0/TCLKD/~{WAIT} (io), 48 PB7/A23/IRQ7/SCK4/TCLKC/TEND0 (io), 52 PB8/A24/~{CS2}/TCLKB/DREQ0/RXD4 (io), 53 PB9/A25/~{CS3}/TCLKA/DACK0/TXD4 (io), 54 PB10/RXD2/~{CS6}/~{CS2}/~{CS0}/IRQ0 (io), 55 PB11/TXD2/~{CS7}/~{CS3}/~{CS1}/IRQ1 (io), 57 PD0/D0 (io), 58 PD1/D1 (io), 59 PD2/D2/TIC5U/RXD2 (io), 60 PD3/D3/TIC5V/TXD2 (io), 61 PD4/D4/TIC5W/SCK2 (io), 62 PD5/D5/TIC5US (io), 63 PD6/D6/TIC5VS (io), 64 PD7/D7/TIC5WS (io), 67 PD8/D8/TIOC3AS (io), 68 PD9/D9/TIOC3CS (io), 69 PD10/D10/TIOC3BS (io), 70 PD11/D11/TIOC3DS (io), 71 PD12/D12/TIOC4AS (io), 72 PD13/D13/TIOC4BS (io), 73 PD14/D14/TIOC4CS (io), 74 PD15/D15/TIOC4DS (io), 77 PD16/D16/IRQ0/~{POE0}/~{UBCTRG}/AUDATA0 (io), 78 PD17/D17/IRQ1/~{POE4}/~{ADTRG}/AUDATA1 (io), 79 PD18/D18/IRQ2/AUDATA2/MDIO (io), 80 PD19/D19/IRQ3/AUDATA3/LNKSTA (io), 81 PD20/D20/IRQ4/~{AUDSYNC}/MDC (io), 82 PD21/D21/IRQ5/TEND1/AUDCK/EXOUT (io), 83 PD22/D22/IRQ6/DREQ1/WOL (io), 84 PD23/D23/IRQ7/DACK1/COL (io), 87 PD24/D24/TIOC4DS/CRS (io), 88 PD25/D25/TIOC4CS/RX_CLK (io), 89 PD26/D26/TIOC4BS/MII_RXD0 (io), 90 PD27/D27/TIOC4AS/MII_RXD1 (io), 91 PD28/D28/TIOC3DS/MII_RXD2 (io), 92 PD29/D29/TIOC3BS/MII_RXD3 (io), 93 PD30/D30/TIOC3CS/SSL3/RX_ER (io), 94 PD31/D31/TIOC3AS/SSL2/RX_DV (io), 97 PA12/IRQ0/TIC5U/~{CS0}/SSL1/TX_CLK (io), 98 PA11/IRQ1/TIC5V/~{CS1}/TX_EN/CRx0/RXD0 (io), 99 PA10/IRQ2/TIC5W/~{CS2}/MII_TXD0/CTx0/TXD0 (io), 100 PA9/IRQ3/TCLKD/~{CS3}/MII_TXD1/SSL0/SCK0 (io), 101 PA8/IRQ4/TCLKC/~{CS4}/MII_TXD2/MISO/RXD1 (io), 102 PA7/IRQ5/TCLKB/~{CS5}/MII_TXD3/MOSI/TXD1 (io), 103 PA6/IRQ6/TCLKA/~{CS6}/TX_ER/RSPCK/SCK1 (io), 107 USBXTAL (out), 109 USBEXTAL (in), 110 PB12/SCL/~{POE1}/IRQ2 (io), 111 PB13/SDA/~{POE2}/IRQ3 (io), 113 USD+ (io), 114 USD- (io), 116 PB14/IRQ6 (io), 117 PB15/IRQ7 (io), 118 VBUS (in), 119 XTAL (out), 121 EXTAL (in), 123 NMI (in), 133 ~{RES} (in), 134 FWE/~{ASEBRKAK}/~{ASEBRK} (io), 135 ~{ASEMD0} (in), 138 PF0/AN0 (in), 139 PF1/AN1 (in), 140 PF2/AN2 (in), 141 PF3/AN3 (in), 143 AVREF (power), 144 AVREF (power), 146 PF4/AN4 (in), 147 PF5/AN5 (in), 148 PF6/AN6 (in), 149 PF7/AN7 (in), 152 MD0 (in), 153 MD1 (in), 154 ~{WDTOVF} (out), 157 PA0/RXD0/~{CS0}/CRx0/IRQ4/RX_CLK (io), 158 PA1/TXD0/~{CS1}/CTx0/IRQ5/MII_RXD0 (io), 159 PA2/SCK0/SSL0/~{CS2}/TCLKD/MII_RXD1 (io), 160 PA3/RXD1/MISO/~{CS3}/TCLKC/MII_RXD2 (io), 161 PA4/TXD1/MOSI/~{CS4}/TCLKB/MII_RXD3 (io), 162 PA5/SCK1/RSPCK/~{CS5}/TCLKA/RX_ER (io), 165 PE7/TIOC2B/~{UBCTRG}/RXD2/SSL1/RX_DV (io), 166 PE8/TIOC3A/DREQ2/SCK2/SSL2/EXOUT (io), 167 PE10/TIOC3C/DREQ3/TXD2/SSL3/TX_CLK (io), 168 PE9/TIOC3B/DACK2/TX_EN (io), 169 PE11/TIOC3D/DACK3/MII_TXD0 (io), 170 PE12/TIOC4A/MII_TXD1 (io), 171 PE13/TIOC4B/~{MRES}/MII_TXD2 (io), 172 PE14/DACK0/TIOC4C/MII_TXD3 (io), 173 PE15/DACK1/TIOC4D/~{IRQOUT}/~{REFOUT}/TX_ER (io), 176 PE0/TIOC0A/TIOC4AS/DREQ0/LNKSTA (io)
part B pins: 125 TDI (in), 126 TDO (out), 127 TCK (in), 128 TMS (in), 129 ~{TRST} (in)
part C pins: 7 VCL (power), 19 VCCQ (power), 38 VCCQ (power), 40 VCL (power), 49 VCL (power), 51 VCCQ (power), 65 VCCQ (power), 75 VCL (power), 85 VCCQ (power), 95 VCCQ (power), 104 VCCQ (power), 106 VCL (power), 112 DrVCC (VCCQ) (power), 124 PLLVCC (power), 130 VCCQ (power), 132 VCL (power), 142 AVCC (power), 145 AVCC (power), 155 VCL (power), 163 VCCQ (power), 174 VCCQ (power)
part D pins: 8 VSS (power), 13 VSS (power), 20 VSS (power), 29 VSS (power), 39 VSS (power), 50 VSS (power), 56 VSS (power), 66 VSS (power), 76 VSS (power), 86 VSS (power), 96 VSS (power), 105 VSS (power), 108 VSS (power), 115 DrVSS (power), 120 VSS (power), 122 PLLVSS (power), 131 VSS (power), 136 AVREFVSS (power), 137 AVSS (power), 150 AVSS (power), 151 AVREFVSS (power), 156 VSS (power), 164 VSS (power), 175 VSS (power)